# Altium integrated library TANK.IntLib: 141 symbols
Pins are listed as number, name and electrical type; pins without a type are passive.

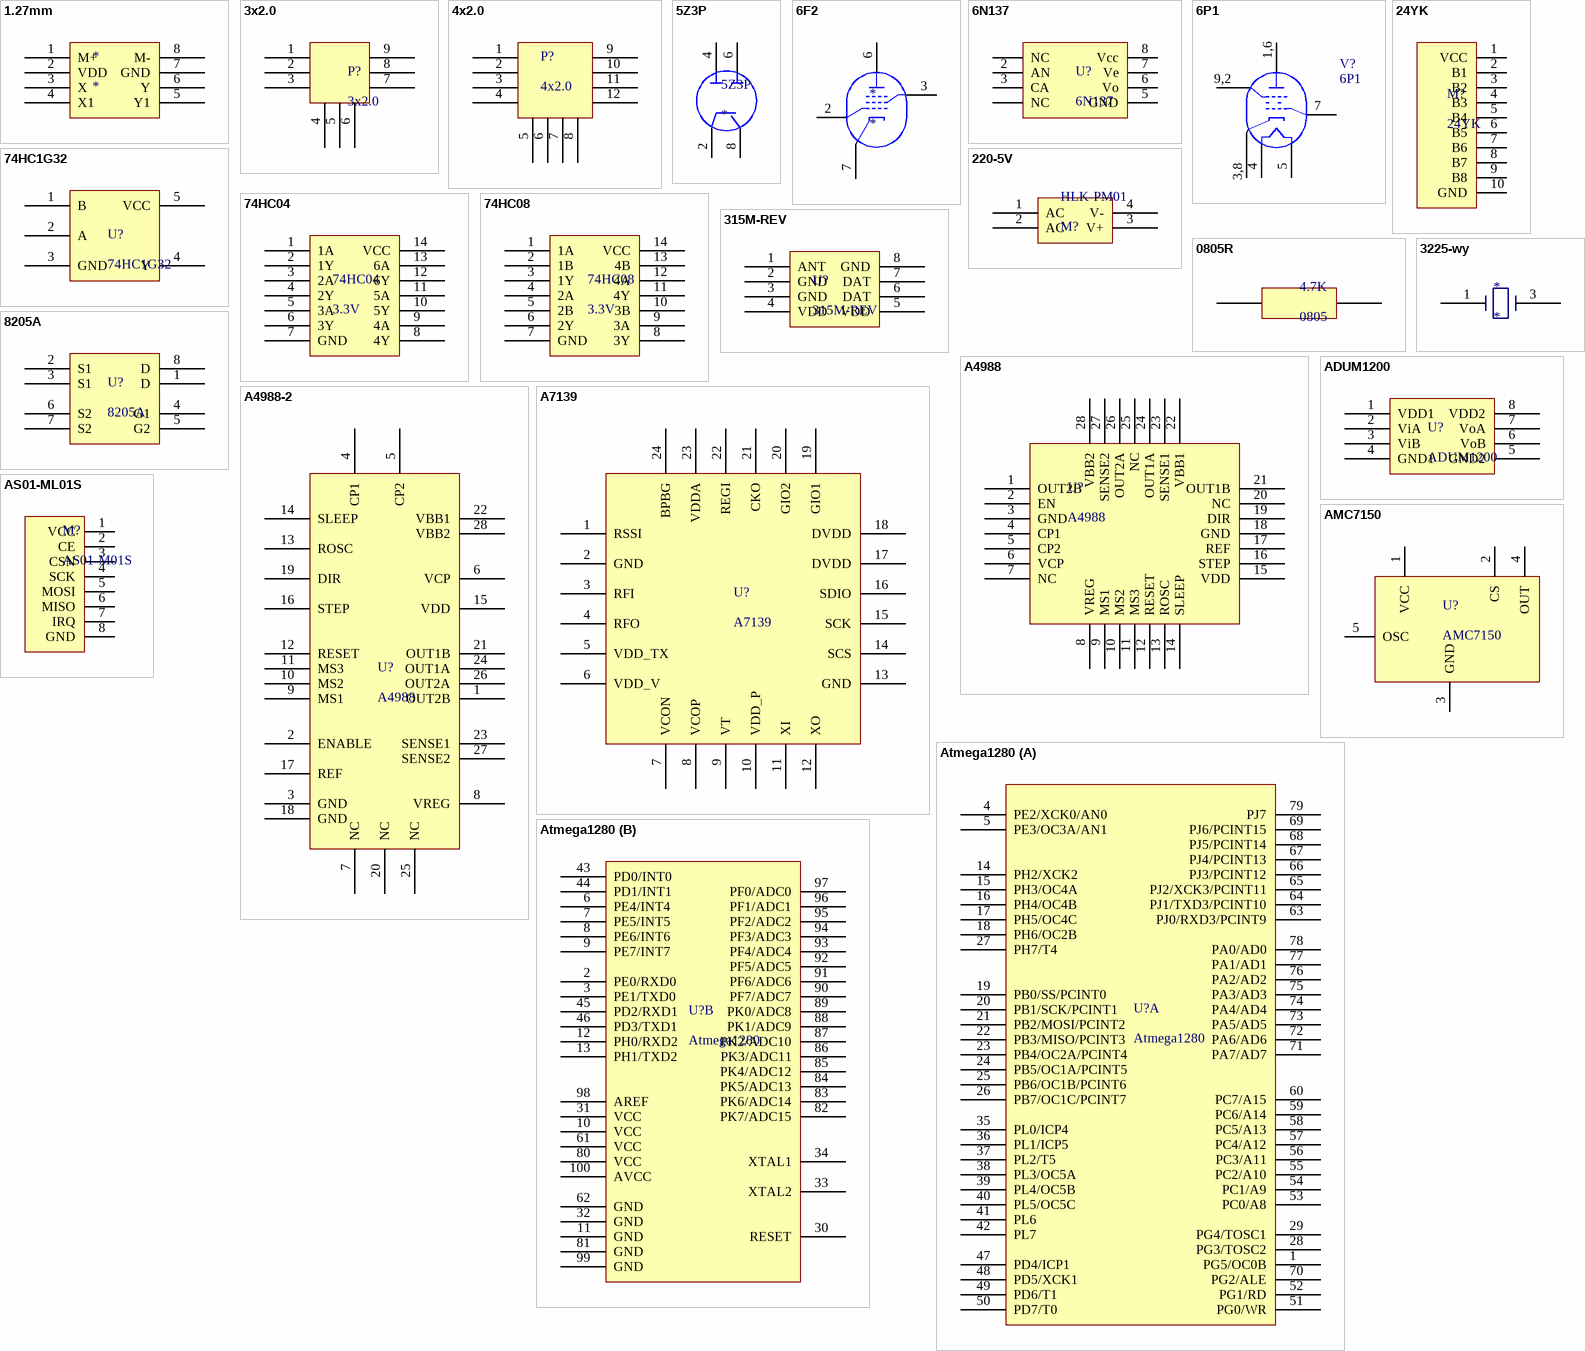
[diagram p0: symbols 1.27mm to Atmega1280]

## 1.27mm
designator *
footprint SOIC127P420X265-8N (SOIC, 8-Leads, Body 5.6x1.3mm (max), Pitch 1.27mm, IPC Medium Density); pin to pad 2>3 3>5 4>7 5>8 7>5 8>2
pins: 1 M+, 2 VDD, 3 X, 4 X1, 5 Y1, 6 Y, 7 GND, 8 M-

## 3x2.0
designator P?
footprint TX-3P
pins: 1, 2, 3, 4, 5, 6, 7, 8, 9

## 4x2.0
designator P?
footprint 3x2.0
pins: 1, 2, 3, 4, 5, 6, 7, 8, 9, 10, 11, 12

## 5Z3P
designator 5Z3P
pins: 2 CATHODE, 4 PLATE, 6 PLATE, 8 FILAMENT2

## 6F2
designator *
pins: 2 GT1, 3 GT3, 6 PT, 7 KT

## 6N137
designator U?
Value: 6N137
footprint SOIC8
pins: 1 NC, 2 AN, 3 CA, 4 NC, 5 GND, 6 Vo, 7 Ve, 8 Vcc

## 6P1
designator V?
Sharp Cutoff Pentode; Note: Pins 2 and 6 are not connected.; Published: 8-Jun-2000; LatestRevisionDate: 17-Jul-2002; LatestRevisionNote: Re-released for DXP Platform.; PackageReference: VTUBE-9; Publisher: Altium Limited
pins: 1,6 PT, 3,8 KT, 4 H, 5 H, 7 GT1, 9,2 GT3

## 24YK
designator M?
footprint 24YK
pins: 1 VCC (power), 2 B1 (power), 3 B2 (power), 4 B3 (power), 5 B4 (power), 6 B5 (power), 7 B6 (power), 8 B7 (power), 9 B8 (power), 10 GND (power)

## 74HC1G32
designator U?
footprint SOT-753
pins: 1 B, 2 A, 3 GND, 4 Y, 5 VCC

## 74HC04
designator 74HC04, comment 3.3V
pins: 1 1A, 2 1Y, 3 2A, 4 2Y, 5 3A, 6 3Y, 7 GND, 8 4Y, 9 4A, 10 5Y, 11 5A, 12 6Y, 13 6A, 14 VCC

## 74HC08
designator 74HC08, comment 3.3V
pins: 1 1A, 2 1B, 3 1Y, 4 2A, 5 2B, 6 2Y, 7 GND, 8 3Y, 9 3A, 10 3B, 11 4Y, 12 4A, 13 4B, 14 VCC

## 220-5V
designator HLK-PM01, comment M?
footprint HLK-PM01
pins: 1 AC, 2 AC, 3 V+, 4 V-

## 315M-REV
designator U?
footprint 315M-REV
pins: 1 ANT, 2 GND, 3 GND, 4 VDD, 5 VDD, 6 DAT, 7 DAT, 8 GND

## 0805R
designator 4.7K, comment 0805
footprint 0805 (Chip Resistor, 2-Leads, Body 2.0x1.3mm, IPC Medium Density)
pins: 1 0, 2 1

## 3225-wy
designator *
pins: 1, 3

## 8205A
designator U?
footprint TSSOP-8L
pins: 1 D, 2 S1, 3 S1, 4 G1, 5 G2, 6 S2, 7 S2, 8 D

## A4988
designator U?
footprint QFN28-A4988
pins: 1 OUT2B, 2 EN, 3 GND, 4 CP1, 5 CP2, 6 VCP, 7 NC, 8 VREG, 9 MS1, 10 MS2, 11 MS3, 12 RESET, 13 ROSC, 14 SLEEP, 15 VDD, 16 STEP, 17 REF, 18 GND, 19 DIR, 20 NC, 21 OUT1B, 22 VBB1, 23 SENSE1, 24 OUT1A, 25 NC, 26 OUT2A, 27 SENSE2, 28 VBB2

## A4988-2
designator U?, comment A4988
footprint QFN28-A4988
pins: 1 OUT2B, 2 ENABLE, 3 GND, 4 CP1, 5 CP2, 6 VCP, 7 NC, 8 VREG, 9 MS1, 10 MS2, 11 MS3, 12 RESET, 13 ROSC, 14 SLEEP, 15 VDD, 16 STEP, 17 REF, 18 GND, 19 DIR, 20 NC, 21 OUT1B, 22 VBB1, 23 SENSE1, 24 OUT1A, 25 NC, 26 OUT2A, 27 SENSE2, 28 VBB2

## A7139
designator U?
footprint QFN24N (QFN, 24-Leads, Body 4.1x4.1mm (max), Pitch 0.50mm, IPC Medium Density)
pins: 1 RSSI, 2 GND, 3 RFI, 4 RFO, 5 VDD_TX, 6 VDD_V, 7 VCON, 8 VCOP, 9 VT, 10 VDD_P, 11 XI, 12 XO, 13 GND, 14 SCS, 15 SCK, 16 SDIO, 17 DVDD, 18 DVDD, 19 GIO1, 20 GIO2, 21 CKO, 22 REGI, 23 VDDA, 24 BPBG

## ADUM1200
designator U?
footprint SOIC8_M (8-Pin Small Outline Integrated Circuit Package (SOIC8), IPC Low Density)
footprint SOIC8
pins: 1 VDD1, 2 ViA, 3 ViB, 4 GND1, 5 GND2, 6 VoB, 7 VoA, 8 VDD2

## AMC7150
designator U?
footprint TO-252-5
pins: 1 VCC, 2 CS, 3 GND, 4 OUT, 5 OSC

## AS01-ML01S
designator M?, comment AS01-M01S
Value: AS01-M01S
footprint AS01-ML01S-V4.0
pins: 1 VCC (power), 2 CE (power), 3 CSN (power), 4 SCK (power), 5 MOSI (power), 6 MISO (power), 7 IRQ (power), 8 GND (power)

## Atmega1280
designator U?
footprint TQFP-100N (TSQFP, 100-Leads, Body 16.3x16.3mm (max), Pitch 0.50mm, IPC Medium Density)
part A pins: 1 PG5/OC0B, 4 PE2/XCK0/AN0, 5 PE3/OC3A/AN1, 14 PH2/XCK2, 15 PH3/OC4A, 16 PH4/OC4B, 17 PH5/OC4C, 18 PH6/OC2B, 19 PB0/SS/PCINT0, 20 PB1/SCK/PCINT1, 21 PB2/MOSI/PCINT2, 22 PB3/MISO/PCINT3, 23 PB4/OC2A/PCINT4, 24 PB5/OC1A/PCINT5, 25 PB6/OC1B/PCINT6, 26 PB7/OC1C/PCINT7, 27 PH7/T4, 28 PG3/TOSC2, 29 PG4/TOSC1, 35 PL0/ICP4, 36 PL1/ICP5, 37 PL2/T5, 38 PL3/OC5A, 39 PL4/OC5B, 40 PL5/OC5C, 41 PL6, 42 PL7, 47 PD4/ICP1, 48 PD5/XCK1, 49 PD6/T1, 50 PD7/T0, 51 PG0/WR, 52 PG1/RD, 53 PC0/A8, 54 PC1/A9, 55 PC2/A10, 56 PC3/A11, 57 PC4/A12, 58 PC5/A13, 59 PC6/A14, 60 PC7/A15, 63 PJ0/RXD3/PCINT9, 64 PJ1/TXD3/PCINT10, 65 PJ2/XCK3/PCINT11, 66 PJ3/PCINT12, 67 PJ4/PCINT13, 68 PJ5/PCINT14, 69 PJ6/PCINT15, 70 PG2/ALE, 71 PA7/AD7, 72 PA6/AD6, 73 PA5/AD5, 74 PA4/AD4, 75 PA3/AD3, 76 PA2/AD2, 77 PA1/AD1, 78 PA0/AD0, 79 PJ7
part B pins: 2 PE0/RXD0, 3 PE1/TXD0, 6 PE4/INT4, 7 PE5/INT5, 8 PE6/INT6, 9 PE7/INT7, 10 VCC, 11 GND, 12 PH0/RXD2, 13 PH1/TXD2, 30 RESET, 31 VCC, 32 GND, 33 XTAL2, 34 XTAL1, 43 PD0/INT0, 44 PD1/INT1, 45 PD2/RXD1, 46 PD3/TXD1, 61 VCC, 62 GND, 80 VCC, 81 GND, 82 PK7/ADC15, 83 PK6/ADC14, 84 PK5/ADC13, 85 PK4/ADC12, 86 PK3/ADC11, 87 PK2/ADC10, 88 PK1/ADC9, 89 PK0/ADC8, 90 PF7/ADC7, 91 PF6/ADC6, 92 PF5/ADC5, 93 PF4/ADC4, 94 PF3/ADC3, 95 PF2/ADC2, 96 PF1/ADC1, 97 PF0/ADC0, 98 AREF, 99 GND, 100 AVCC

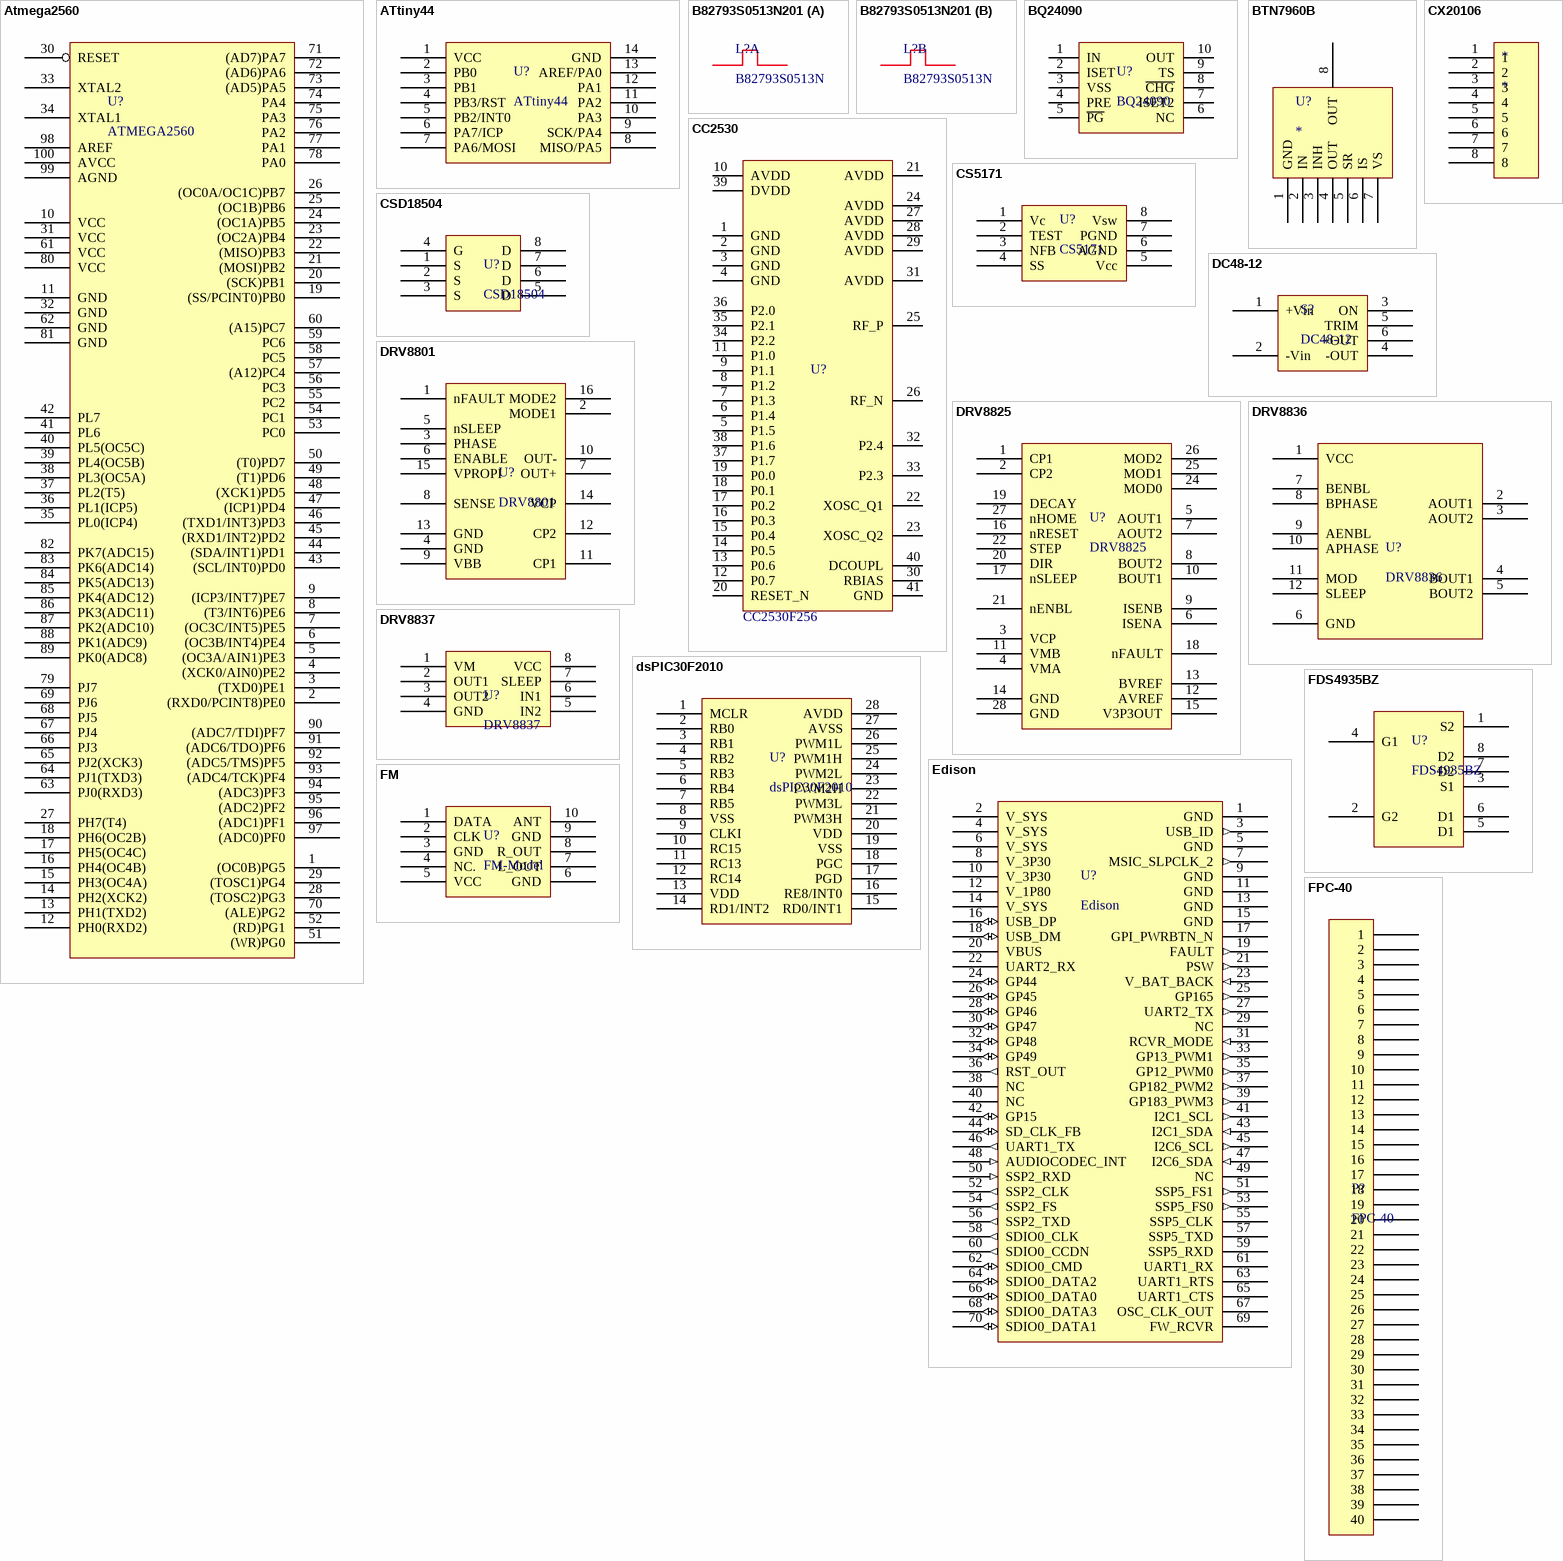
[diagram p1: symbols Atmega2560 to FPC-40]

## Atmega2560
designator U?, comment ATMEGA2560
footprint TQFP-100N (TSQFP, 100-Leads, Body 16.3x16.3mm (max), Pitch 0.50mm, IPC Medium Density)
pins: 1 (OC0B)PG5, 2 (RXD0/PCINT8)PE0, 3 (TXD0)PE1, 4 (XCK0/AIN0)PE2, 5 (OC3A/AIN1)PE3, 6 (OC3B/INT4)PE4, 7 (OC3C/INT5)PE5, 8 (T3/INT6)PE6, 9 (ICP3/INT7)PE7, 10 VCC, 11 GND, 12 PH0(RXD2), 13 PH1(TXD2), 14 PH2(XCK2), 15 PH3(OC4A), 16 PH4(OC4B), 17 PH5(OC4C), 18 PH6(OC2B), 19 (SS/PCINT0)PB0, 20 (SCK)PB1, 21 (MOSI)PB2, 22 (MISO)PB3, 23 (OC2A)PB4, 24 (OC1A)PB5, 25 (OC1B)PB6, 26 (OC0A/OC1C)PB7, 27 PH7(T4), 28 (TOSC2)PG3, 29 (TOSC1)PG4, 30 RESET, 31 VCC, 32 GND, 33 XTAL2, 34 XTAL1, 35 PL0(ICP4), 36 PL1(ICP5), 37 PL2(T5), 38 PL3(OC5A), 39 PL4(OC5B), 40 PL5(OC5C), 41 PL6, 42 PL7, 43 (SCL/INT0)PD0, 44 (SDA/INT1)PD1, 45 (RXD1/INT2)PD2, 46 (TXD1/INT3)PD3, 47 (ICP1)PD4, 48 (XCK1)PD5, 49 (T1)PD6, 50 (T0)PD7, 51 (WR)PG0, 52 (RD)PG1, 53 PC0, 54 PC1, 55 PC2, 56 PC3, 57 (A12)PC4, 58 PC5, 59 PC6, 60 (A15)PC7, 61 VCC, 62 GND, 63 PJ0(RXD3), 64 PJ1(TXD3), 65 PJ2(XCK3), 66 PJ3, 67 PJ4, 68 PJ5, 69 PJ6, 70 (ALE)PG2, 71 (AD7)PA7, 72 (AD6)PA6, 73 (AD5)PA5, 74 PA4, 75 PA3, 76 PA2, 77 PA1, 78 PA0, 79 PJ7, 80 VCC, 81 GND, 82 PK7(ADC15), 83 PK6(ADC14), 84 PK5(ADC13), 85 PK4(ADC12), 86 PK3(ADC11), 87 PK2(ADC10), 88 PK1(ADC9), 89 PK0(ADC8), 90 (ADC7/TDI)PF7, 91 (ADC6/TDO)PF6, 92 (ADC5/TMS)PF5, 93 (ADC4/TCK)PF4, 94 (ADC3)PF3, 95 (ADC2)PF2, 96 (ADC1)PF1, 97 (ADC0)PF0, 98 AREF, 99 AGND, 100 AVCC

## ATtiny44
designator U?
footprint 751A-03_M (14-Pin Small Outline Integrated Circuit 1.27 mm Pitch, IPC Low Density)
pins: 1 VCC, 2 PB0, 3 PB1, 4 PB3/RST, 5 PB2/INT0, 6 PA7/ICP, 7 PA6/MOSI, 8 MISO/PA5, 9 SCK/PA4, 10 PA3, 11 PA2, 12 PA1, 13 AREF/PA0, 14 GND

## B82793S0513N201
designator L?, comment B82793S0513N
footprint B82793S0513N201
part A pins: 1, 4
part B pins: 2, 3

## BQ24090
designator U?
footprint MSOP-PowerPAD-10
pins: 1 IN, 2 ISET, 3 VSS, 4 PRE, 5 ~{PG}, 6 NC, 7 ISET2, 8 ~{CHG}, 9 TS, 10 OUT, 11 hidden to GND

## BTN7960B
designator U?
footprint BTN7960B (D2-PAK, 8-Pads, Body 9.4x10.2mm (max), IPC Medium Density)
pins: 1 GND, 2 IN, 3 INH, 4 OUT, 5 SR, 6 IS, 7 VS, 8 OUT

## CC2530
designator U?  value CC2530F256  (hidden comment: CC2530)
footprint Model Name (Footprint not found)
footprint QFN40P (QFN, 40-Leads, Body 6.2x6.2mm (max), Pitch 0.50mm, IPC Medium Density)
pins: 1 GND, 2 GND, 3 GND, 4 GND, 5 P1.5, 6 P1.4, 7 P1.3, 8 P1.2, 9 P1.1, 10 AVDD, 11 P1.0, 12 P0.7, 13 P0.6, 14 P0.5, 15 P0.4, 16 P0.3, 17 P0.2, 18 P0.1, 19 P0.0, 20 RESET_N, 21 AVDD, 22 XOSC_Q1, 23 XOSC_Q2, 24 AVDD, 25 RF_P, 26 RF_N, 27 AVDD, 28 AVDD, 29 AVDD, 30 RBIAS, 31 AVDD, 32 P2.4, 33 P2.3, 34 P2.2, 35 P2.1, 36 P2.0, 37 P1.7, 38 P1.6, 39 DVDD, 40 DCOUPL, 41 GND

## CS5171
designator U?
footprint SOIC8_N (8-Pin Small Outline Integrated Circuit Package (SOIC8), IPC Medium Density)
pins: 1 Vc, 2 TEST, 3 NFB, 4 SS, 5 Vcc, 6 AGND, 7 PGND, 8 Vsw

## CSD18504
designator U?
footprint SON-5*6
pins: 1 S, 2 S, 3 S, 4 G, 5 D, 6 D, 7 D, 8 D

## CX20106
designator *
pins: 1, 2, 3, 4, 5, 6, 7, 8

## DC48-12
designator S?
footprint SE48-12
pins: 1 +Vin, 2 -Vin, 3 ON, 4 -OUT, 5 TRIM, 6 +OUT

## DRV8801
designator U?
footprint HTSSOP-16
pins: 1 nFAULT, 2 MODE1, 3 PHASE, 4 GND, 5 nSLEEP, 6 ENABLE, 7 OUT+, 8 SENSE, 9 VBB, 10 OUT-, 11 CP1, 12 CP2, 13 GND, 14 VCP, 15 VPROPI, 16 MODE2

## DRV8825
designator U?
footprint HTSSOP28-L6470
pins: 1 CP1, 2 CP2, 3 VCP, 4 VMA, 5 AOUT1, 6 ISENA, 7 AOUT2, 8 BOUT2, 9 ISENB, 10 BOUT1, 11 VMB, 12 AVREF, 13 BVREF, 14 GND, 15 V3P3OUT, 16 nRESET, 17 nSLEEP, 18 nFAULT, 19 DECAY, 20 DIR, 21 nENBL, 22 STEP, 23 NC hidden, 24 MOD0, 25 MOD1, 26 MOD2, 27 nHOME, 28 GND

## DRV8836
designator U?
footprint WSON-8
pins: 1 VCC, 2 AOUT1, 3 AOUT2, 4 BOUT1, 5 BOUT2, 6 GND, 7 BENBL, 8 BPHASE, 9 AENBL, 10 APHASE, 11 MOD, 12 SLEEP

## DRV8837
designator U?
footprint WSON8 (DRV8837)
pins: 1 VM, 2 OUT1, 3 OUT2, 4 GND, 5 IN2, 6 IN1, 7 SLEEP, 8 VCC
1 alternate drawing of the same symbol

## dsPIC30F2010
designator U?
footprint SOIC28_M (28-Pin Small Outline Integrated Circuit (SOIC28), IPC Low Density)
pins: 1 MCLR, 2 RB0, 3 RB1, 4 RB2, 5 RB3, 6 RB4, 7 RB5, 8 VSS, 9 CLKI, 10 RC15, 11 RC13, 12 RC14, 13 VDD, 14 RD1/INT2, 15 RD0/INT1, 16 RE8/INT0, 17 PGD, 18 PGC, 19 VSS, 20 VDD, 21 PWM3H, 22 PWM3L, 23 PWM2H, 24 PWM2L, 25 PWM1H, 26 PWM1L, 27 AVSS, 28 AVDD

## Edison
designator U?
pins: 1 GND (power), 2 V_SYS, 3 USB_ID (out), 4 V_SYS, 5 GND (power), 6 V_SYS, 7 MSIC_SLPCLK_2 (out), 8 V_3P30, 9 GND (power), 10 V_3P30, 11 GND (power), 12 V_1P80, 13 GND (power), 14 V_SYS, 15 GND (power), 16 USB_DP (io), 17 GPI_PWRBTN_N, 18 USB_DM (io), 19 FAULT (out), 20 VBUS, 21 PSW (out), 22 UART2_RX, 23 V_BAT_BACK (in), 24 GP44 (io), 25 GP165 (out), 26 GP45 (io), 27 UART2_TX (out), 28 GP46 (io), 29 NC, 30 GP47 (io), 31 RCVR_MODE (in), 32 GP48 (io), 33 GP13_PWM1 (out), 34 GP49 (io), 35 GP12_PWM0 (out), 36 RST_OUT (out), 37 GP182_PWM2 (out), 38 NC, 39 GP183_PWM3 (out), 40 NC, 41 I2C1_SCL (out), 42 GP15 (io), 43 I2C1_SDA (in), 44 SD_CLK_FB (io), 45 I2C6_SCL (out), 46 UART1_TX (out), 47 I2C6_SDA (in), 48 AUDIOCODEC_INT (in), 49 NC, 50 SSP2_RXD (in), 51 SSP5_FS1 (out), 52 SSP2_CLK (out), 53 SSP5_FS0 (out), 54 SSP2_FS (out), 55 SSP5_CLK, 56 SSP2_TXD (out), 57 SSP5_TXD, 58 SDIO0_CLK (out), 59 SSP5_RXD, 60 SDIO0_CCDN (out), 61 UART1_RX, 62 SDIO0_CMD (io), 63 UART1_RTS, 64 SDIO0_DATA2 (io), 65 UART1_CTS, 66 SDIO0_DATA0 (io), 67 OSC_CLK_OUT, 68 SDIO0_DATA3 (io), 69 FW_RCVR, 70 SDIO0_DATA1 (io)

## FDS4935BZ
designator U?
footprint SOIC8
pins: 1 S2, 2 G2, 3 S1, 4 G1, 5 D1, 6 D1, 7 D2, 8 D2

## FM
designator U?, comment FM-Model
footprint FM
pins: 1 DATA, 2 CLK, 3 GND, 4 NC., 5 VCC, 6 GND, 7 L_OUT, 8 R_OUT, 9 GND, 10 ANT

## FPC-40
designator P?
footprint FPC-40
pins: 1, 2, 3, 4, 5, 6, 7, 8, 9, 10, 11, 12, 13, 14, 15, 16, 17, 18, 19, 20, 21, 22, 23, 24, 25, 26, 27, 28, 29, 30, 31, 32, 33, 34, 35, 36, 37, 38, 39, 40

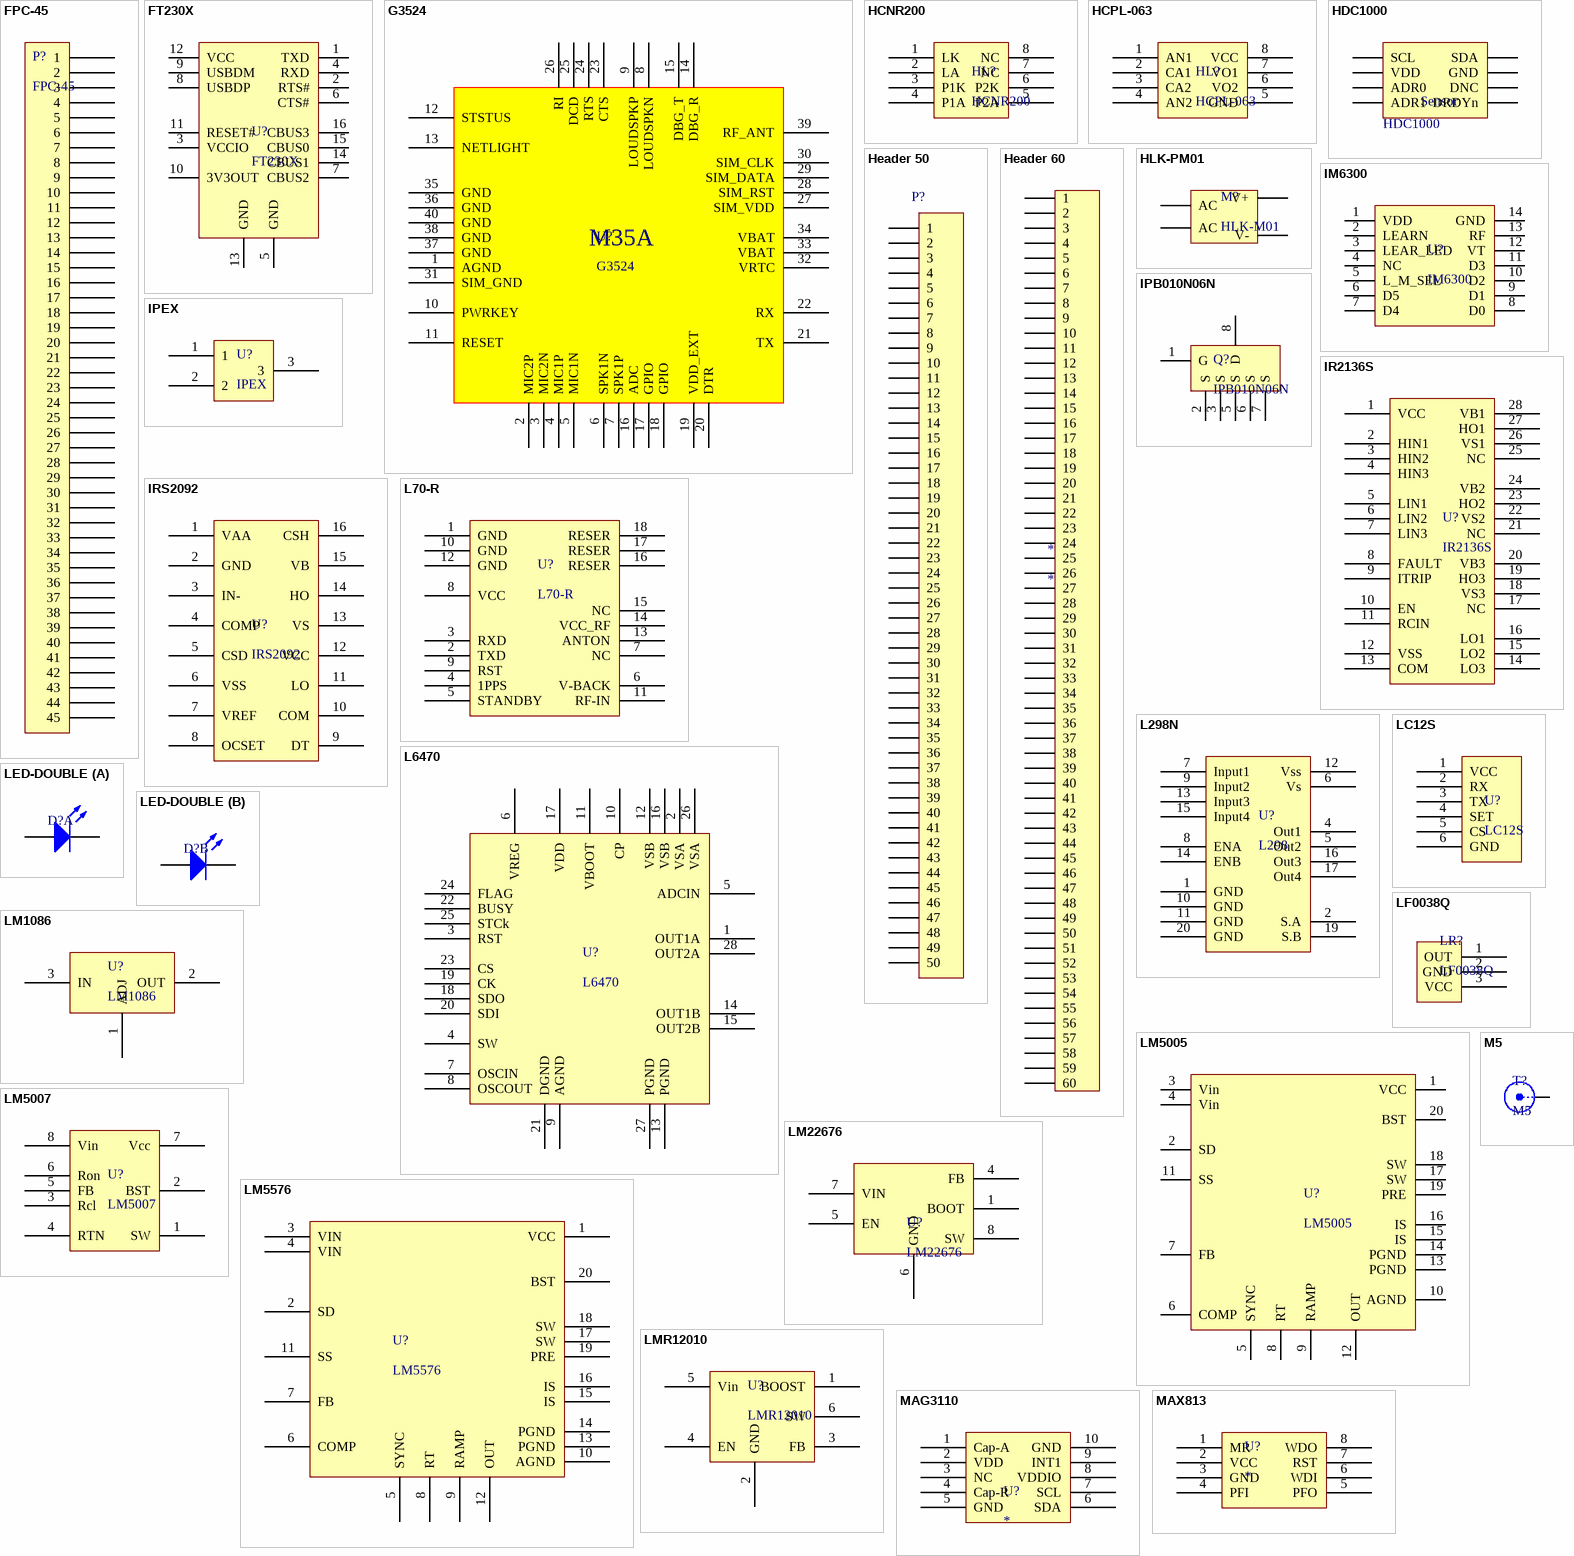
[diagram p2: symbols FPC-45 to MAX813]

## FPC-45
designator P?
footprint FPC-45
pins: 1, 2, 3, 4, 5, 6, 7, 8, 9, 10, 11, 12, 13, 14, 15, 16, 17, 18, 19, 20, 21, 22, 23, 24, 25, 26, 27, 28, 29, 30, 31, 32, 33, 34, 35, 36, 37, 38, 39, 40, 41, 42, 43, 44, 45

## FT230X
designator U?
footprint SSOP16 (SSOP; 16 Leads; Body Width 5.3 mm; Pitch 0.65 mm)
pins: 1 TXD, 2 RTS#, 3 VCCIO, 4 RXD, 5 GND, 6 CTS#, 7 CBUS2, 8 USBDP, 9 USBDM, 10 3V3OUT, 11 RESET#, 12 VCC, 13 GND, 14 CBUS1, 15 CBUS0, 16 CBUS3

## G3524
designator U?
footprint G3524
pins: 1 AGND, 2 MIC2P, 3 MIC2N, 4 MIC1P, 5 MIC1N, 6 SPK1N, 7 SPK1P, 8 LOUDSPKN, 9 LOUDSPKP, 10 PWRKEY, 11 RESET, 12 STSTUS, 13 NETLIGHT, 14 DBG_R, 15 DBG_T, 16 ADC, 17 GPIO, 18 GPIO, 19 VDD_EXT, 20 DTR, 21 TX, 22 RX, 23 CTS, 24 RTS, 25 DCD, 26 RI, 27 SIM_VDD, 28 SIM_RST, 29 SIM_DATA, 30 SIM_CLK, 31 SIM_GND, 32 VRTC, 33 VBAT, 34 VBAT, 35 GND, 36 GND, 37 GND, 38 GND, 39 RF_ANT, 40 GND
text: M35A

## HCNR200
designator HL?
pins: 1 LK, 2 LA, 3 P1K, 4 P1A, 5 P2A, 6 P2K, 7 NC, 8 NC

## HCPL-063
designator HL?
footprint SOP8_M (SOIC, 8-Leads, Body 4.9x3.9mm, Pitch 1.27mm, IPC Low Density)
pins: 1 AN1, 2 CA1, 3 CA2, 4 AN2, 5 GND, 6 VO2, 7 VO1, 8 VCC

## HDC1000
designator U?, comment Sensor  value HDC1000
footprint BGA8C50P4X2_207X162X68 (BGA, 8-Leads, Body 2.1x1.6mm,  Pitch 0.50mm)
pins: A1 SCL, A2 SDA, B1 VDD, B2 GND, C1 ADR0, C2 DNC, D1 ADR1, D2 DRDYn

## Header 50
designator P?  (value not drawn)
pins: 1, 2, 3, 4, 5, 6, 7, 8, 9, 10, 11, 12, 13, 14, 15, 16, 17, 18, 19, 20, 21, 22, 23, 24, 25, 26, 27, 28, 29, 30, 31, 32, 33, 34, 35, 36, 37, 38, 39, 40, 41, 42, 43, 44, 45, 46, 47, 48, 49, 50

## Header 60
designator *
pins: 1, 2, 3, 4, 5, 6, 7, 8, 9, 10, 11, 12, 13, 14, 15, 16, 17, 18, 19, 20, 21, 22, 23, 24, 25, 26, 27, 28, 29, 30, 31, 32, 33, 34, 35, 36, 37, 38, 39, 40, 41, 42, 43, 44, 45, 46, 47, 48, 49, 50, 51, 52, 53, 54, 55, 56, 57, 58, 59, 60

## HLK-PM01
designator M?, comment HLK-M01
footprint HLK-PM01
pins: 1 AC, 2 AC, 3 V-, 4 V+

## IM6300
designator U?
footprint SOIC14_M (SOIC, 14-Leads, Body 8.6x3.9mm, Pitch 1.27mm, IPC Low Density)
pins: 1 VDD (power), 2 LEARN (power), 3 LEAR_LED (power), 4 NC (power), 5 L_M_SEL (power), 6 D5 (power), 7 D4 (power), 8 D0 (power), 9 D1 (power), 10 D2 (power), 11 D3 (power), 12 VT (power), 13 RF (power), 14 GND (power)

## IPB010N06N
designator Q?
footprint TO263-7
pins: 1 G, 2 S, 3 S, 5 S, 6 S, 7 S, 8 D

## IPEX
designator U?
footprint IPEX (SOT23, 3-Leads, Body 3.0x2.6mm (max), Pitch 0.95mm, IPC Medium Density)
pins: 1, 2, 3

## IR2136S
designator U?
footprint SOIC28_M (28-Pin Small Outline Integrated Circuit 1.27 mm Pitch, IPC Low Density)
pins: 1 VCC, 2 HIN1, 3 HIN2, 4 HIN3, 5 LIN1, 6 LIN2, 7 LIN3, 8 FAULT, 9 ITRIP, 10 EN, 11 RCIN, 12 VSS, 13 COM, 14 LO3, 15 LO2, 16 LO1, 17 NC, 18 VS3, 19 HO3, 20 VB3, 21 NC, 22 VS2, 23 HO2, 24 VB2, 25 NC, 26 VS1, 27 HO1, 28 VB1

## IRS2092
designator U?
footprint SOIC16_M (16-Pin Small Outline Integrated Circuit 1.27 mm Pitch, IPC Low Density)
pins: 1 VAA, 2 GND, 3 IN-, 4 COMP, 5 CSD, 6 VSS, 7 VREF, 8 OCSET, 9 DT, 10 COM, 11 LO, 12 VCC, 13 VS, 14 HO, 15 VB, 16 CSH

## L70-R
designator U?
footprint L-70R
pins: 1 GND, 2 TXD, 3 RXD, 4 1PPS, 5 STANDBY, 6 V-BACK, 7 NC, 8 VCC, 9 RST, 10 GND, 11 RF-IN, 12 GND, 13 ANTON, 14 VCC_RF, 15 NC, 16 RESER, 17 RESER, 18 RESER

## L298N
designator U?, comment L298
footprint PowerSO-20 (SOP, 20-Leads, Body 15.9x11.0mm (max), Pitch 1.27mm, IPC Medium Density)
pins: 1 GND, 2 S.A, 4 Out1, 5 Out2, 6 Vs, 7 Input1, 8 ENA, 9 Input2, 10 GND, 11 GND, 12 Vss, 13 Input3, 14 ENB, 15 Input4, 16 Out3, 17 Out4, 19 S.B, 20 GND

## L6470
designator U?
footprint HTSSOP28-L6470
pins: 1 OUT1A, 2 VSA, 3 RST, 4 SW, 5 ADCIN, 6 VREG, 7 OSCIN, 8 OSCOUT, 9 AGND, 10 CP, 11 VBOOT, 12 VSB, 13 PGND, 14 OUT1B, 15 OUT2B, 16 VSB, 17 VDD, 18 SDO, 19 CK, 20 SDI, 21 DGND, 22 BUSY, 23 CS, 24 FLAG, 25 STCk, 26 VSA, 27 PGND, 28 OUT2A

## LC12S
designator U?
footprint LC12S
pins: 1 VCC, 2 RX, 3 TX, 4 SET, 5 CS, 6 GND

## LED-DOUBLE
designator D?, comment LED  (value not drawn)
footprint 0603-LED-DOUBLE
part A pins: 1 A, 2 K
part B pins: 3 A, 4 K

## LF0038Q
designator LR?
footprint LF0038Q
pins: 1 OUT, 2 GND, 3 VCC

## LM1086
designator U?
footprint TO-263AB (Footprint not found)
pins: 1 ADJ, 2 OUT, 3 IN, 4 hidden to OUT

## LM5005
designator U?
Value: LM5005
footprint TSSOP-20
pins: 1 VCC (power), 2 SD (power), 3 Vin (power), 4 Vin (power), 5 SYNC (power), 6 COMP (power), 7 FB (power), 8 RT (power), 9 RAMP (power), 10 AGND (power), 11 SS (power), 12 OUT (power), 13 PGND (power), 14 PGND (power), 15 IS (power), 16 IS (power), 17 SW (power), 18 SW (power), 19 PRE (power), 20 BST (power)

## LM5007
designator U?
pins: 1 SW, 2 BST, 3 Rcl, 4 RTN, 5 FB, 6 Ron, 7 Vcc, 8 Vin

## LM5576
designator U?
Value: LM5576
footprint HTTSOP-20
pins: 1 VCC, 2 SD, 3 VIN, 4 VIN, 5 SYNC, 6 COMP, 7 FB, 8 RT, 9 RAMP, 10 AGND, 11 SS, 12 OUT, 13 PGND, 14 PGND, 15 IS, 16 IS, 17 SW, 18 SW, 19 PRE, 20 BST

## LM22676
designator U?
footprint SOP8-POW
pins: 1 BOOT, 2 NC hidden, 3 NC hidden, 4 FB, 5 EN, 6 GND, 7 VIN, 8 SW, 9 hidden to GND

## LMR12010
designator U?
pins: 1 BOOST, 2 GND, 3 FB, 4 EN, 5 Vin, 6 SW

## M5
designator T?
footprint M5
pins: 1

## MAG3110
designator U?
footprint MAG3110-10N (QFN, 10-Leads, Body 2.0x2.0mm (max), Pitch 0.40mm, IPC Medium Density)
pins: 1 Cap-A, 2 VDD, 3 NC, 4 Cap-R, 5 GND, 6 SDA, 7 SCL, 8 VDDIO, 9 INT1, 10 GND

## MAX813
designator U?
footprint SOP8_M (Footprint not found)
pins: 1 MR, 2 VCC, 3 GND, 4 PFI, 5 PFO, 6 WDI, 7 RST, 8 WDO

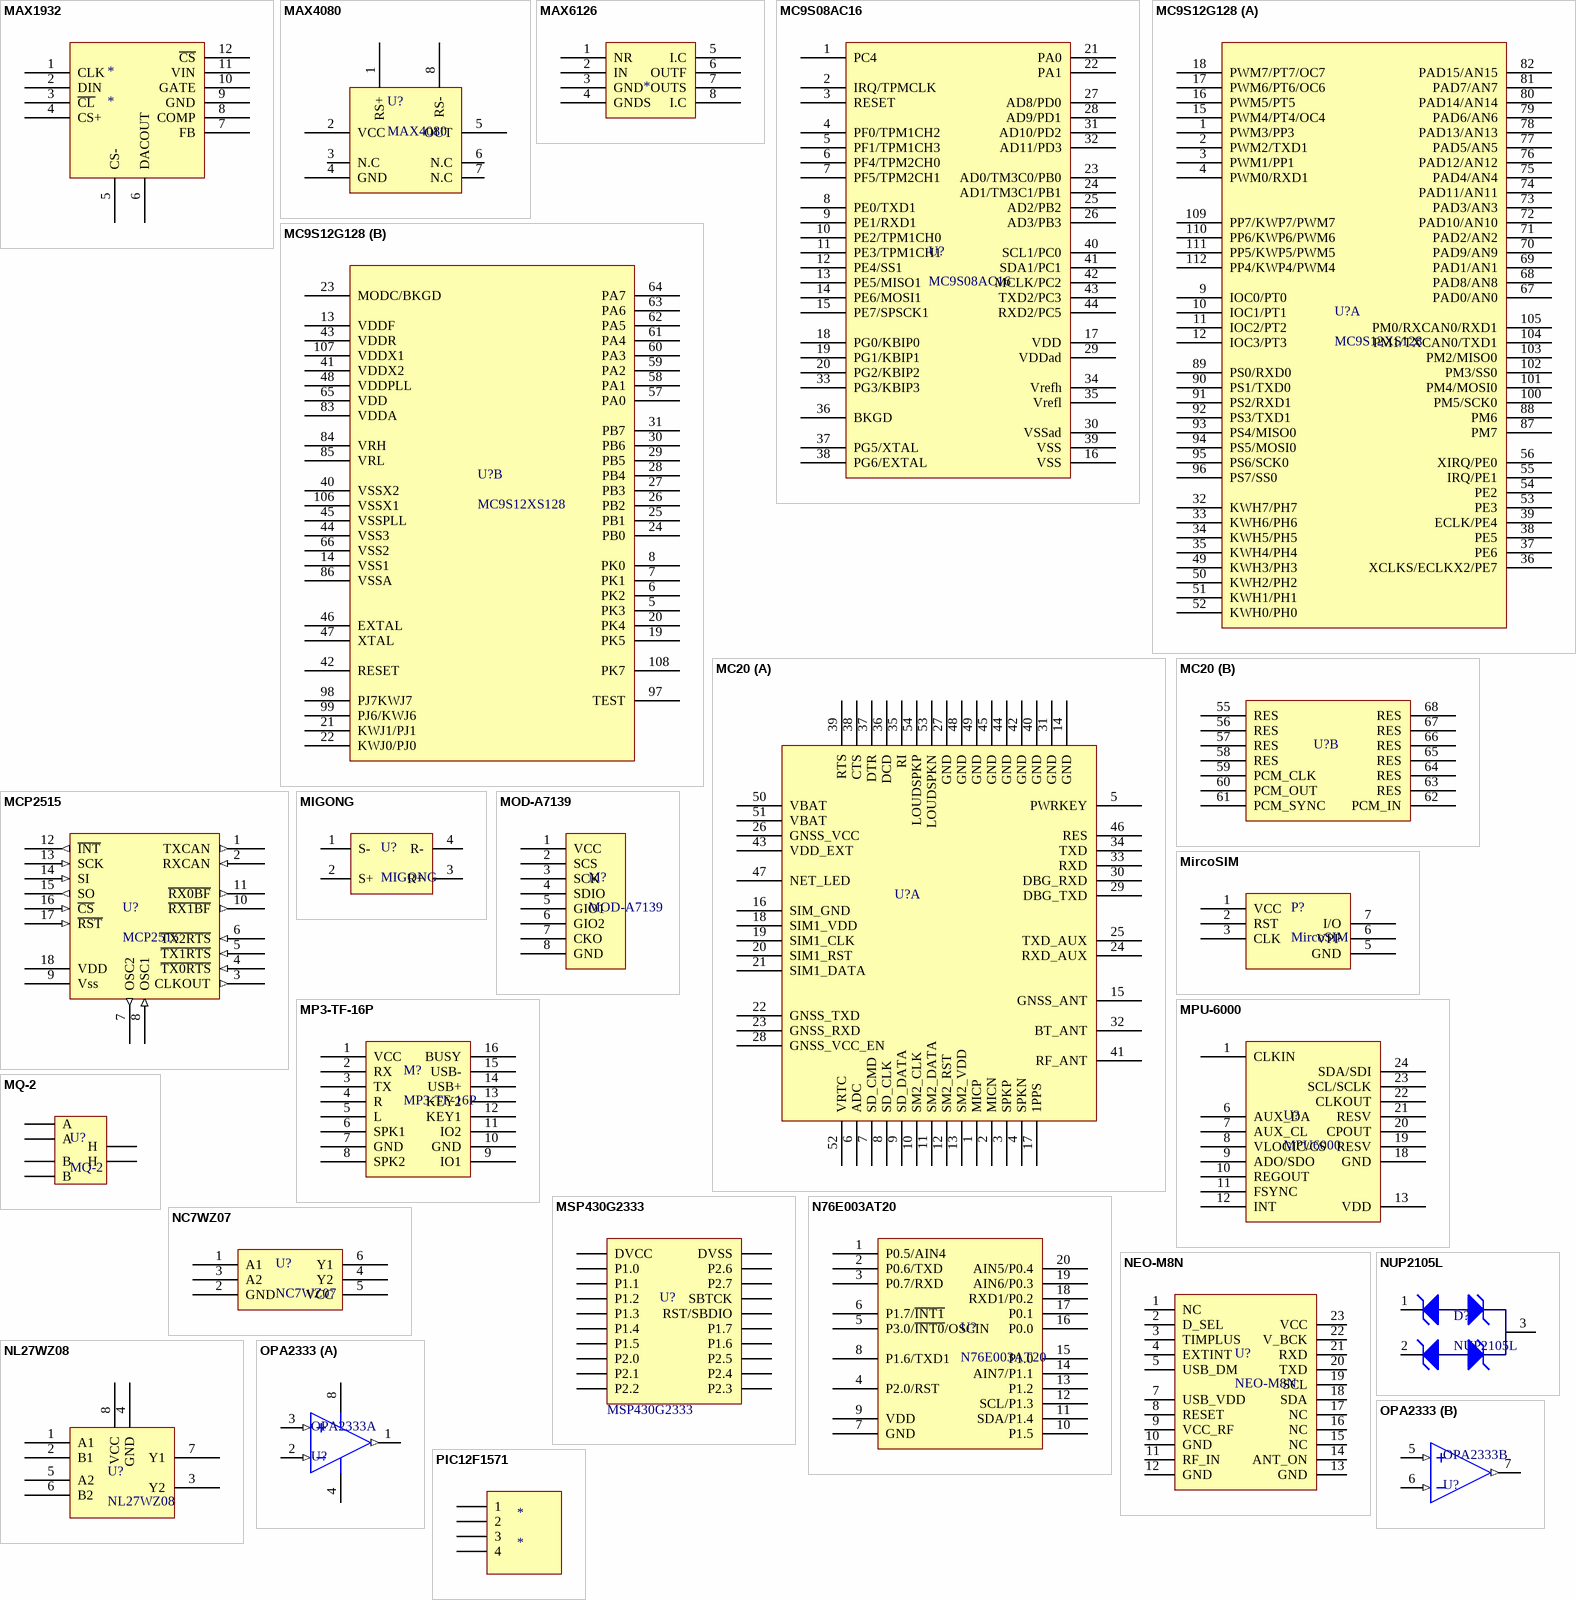
[diagram p3: symbols MAX1932 to PIC12F1571]

## MAX1932
designator *
pins: 1 CLK, 2 DIN, 3 ~{CL}, 4 CS+, 5 CS-, 6 DACOUT, 7 FB, 8 COMP, 9 GND, 10 GATE, 11 VIN, 12 ~{CS}

## MAX4080
designator U?
footprint SOIC8
pins: 1 RS+, 2 VCC, 3 N.C, 4 GND, 5 OUT, 6 N.C, 7 N.C, 8 RS-

## MAX6126
designator ?
footprint uMAX-8N (TSOP, 8-Leads, Body 3.1x3.1mm (max), Pitch 0.65mm, IPC Medium Density)
pins: 1 NR, 2 IN, 3 GND, 4 GNDS, 5 I.C, 6 OUTF, 7 OUTS, 8 I.C

## MC9S08AC16
designator U?
footprint 44A_N (44-Pin Thin Quad Flat Pack 0.8 mm Pitch, IPC Medium Density)
pins: 1 PC4, 2 IRQ/TPMCLK, 3 RESET, 4 PF0/TPM1CH2, 5 PF1/TPM1CH3, 6 PF4/TPM2CH0, 7 PF5/TPM2CH1, 8 PE0/TXD1, 9 PE1/RXD1, 10 PE2/TPM1CH0, 11 PE3/TPM1CH1, 12 PE4/SS1, 13 PE5/MISO1, 14 PE6/MOSI1, 15 PE7/SPSCK1, 16 VSS, 17 VDD, 18 PG0/KBIP0, 19 PG1/KBIP1, 20 PG2/KBIP2, 21 PA0, 22 PA1, 23 AD0/TM3C0/PB0, 24 AD1/TM3C1/PB1, 25 AD2/PB2, 26 AD3/PB3, 27 AD8/PD0, 28 AD9/PD1, 29 VDDad, 30 VSSad, 31 AD10/PD2, 32 AD11/PD3, 33 PG3/KBIP3, 34 Vrefh, 35 Vrefl, 36 BKGD, 37 PG5/XTAL, 38 PG6/EXTAL, 39 VSS, 40 SCL1/PC0, 41 SDA1/PC1, 42 MCLK/PC2, 43 TXD2/PC3, 44 RXD2/PC5

## MC9S12G128
designator U?, comment MC9S12XS128
footprint LQFP-112 (TQFP, 112-Leads, Body 22.0x22.0mm (max), Pitch 0.65mm, IPC Medium Density)
part A pins: 1 PWM3/PP3, 2 PWM2/TXD1, 3 PWM1/PP1, 4 PWM0/RXD1, 9 IOC0/PT0, 10 IOC1/PT1, 11 IOC2/PT2, 12 IOC3/PT3, 15 PWM4/PT4/OC4, 16 PWM5/PT5, 17 PWM6/PT6/OC6, 18 PWM7/PT7/OC7, 32 KWH7/PH7, 33 KWH6/PH6, 34 KWH5/PH5, 35 KWH4/PH4, 36 XCLKS/ECLKX2/PE7, 37 PE6, 38 PE5, 39 ECLK/PE4, 49 KWH3/PH3, 50 KWH2/PH2, 51 KWH1/PH1, 52 KWH0/PH0, 53 PE3, 54 PE2, 55 IRQ/PE1, 56 XIRQ/PE0, 67 PAD0/AN0, 68 PAD8/AN8, 69 PAD1/AN1, 70 PAD9/AN9, 71 PAD2/AN2, 72 PAD10/AN10, 73 PAD3/AN3, 74 PAD11/AN11, 75 PAD4/AN4, 76 PAD12/AN12, 77 PAD5/AN5, 78 PAD13/AN13, 79 PAD6/AN6, 80 PAD14/AN14, 81 PAD7/AN7, 82 PAD15/AN15, 87 PM7, 88 PM6, 89 PS0/RXD0, 90 PS1/TXD0, 91 PS2/RXD1, 92 PS3/TXD1, 93 PS4/MISO0, 94 PS5/MOSI0, 95 PS6/SCK0, 96 PS7/SS0, 100 PM5/SCK0, 101 PM4/MOSI0, 102 PM3/SS0, 103 PM2/MISO0, 104 PM1/TXCAN0/TXD1, 105 PM0/RXCAN0/RXD1, 109 PP7/KWP7/PWM7, 110 PP6/KWP6/PWM6, 111 PP5/KWP5/PWM5, 112 PP4/KWP4/PWM4
part B pins: 5 PK3, 6 PK2, 7 PK1, 8 PK0, 13 VDDF, 14 VSS1, 19 PK5, 20 PK4, 21 KWJ1/PJ1, 22 KWJ0/PJ0, 23 MODC/BKGD, 24 PB0, 25 PB1, 26 PB2, 27 PB3, 28 PB4, 29 PB5, 30 PB6, 31 PB7, 40 VSSX2, 41 VDDX2, 42 RESET, 43 VDDR, 44 VSS3, 45 VSSPLL, 46 EXTAL, 47 XTAL, 48 VDDPLL, 57 PA0, 58 PA1, 59 PA2, 60 PA3, 61 PA4, 62 PA5, 63 PA6, 64 PA7, 65 VDD, 66 VSS2, 83 VDDA, 84 VRH, 85 VRL, 86 VSSA, 97 TEST, 98 PJ7KWJ7, 99 PJ6/KWJ6, 106 VSSX1, 107 VDDX1, 108 PK7

## MC20
designator U?  (value not drawn)
footprint MC20
part A pins: 1 MICP, 2 MICN, 3 SPKP, 4 SPKN, 5 PWRKEY, 6 ADC, 7 SD_CMD, 8 SD_CLK, 9 SD_DATA, 10 SM2_CLK, 11 SM2_DATA, 12 SM2_RST, 13 SM2_VDD, 14 GND, 15 GNSS_ANT, 16 SIM_GND, 17 1PPS, 18 SIM1_VDD, 19 SIM1_CLK, 20 SIM1_RST, 21 SIM1_DATA, 22 GNSS_TXD, 23 GNSS_RXD, 24 RXD_AUX, 25 TXD_AUX, 26 GNSS_VCC, 27 GND, 28 GNSS_VCC_EN, 29 DBG_TXD, 30 DBG_RXD, 31 GND, 32 BT_ANT, 33 RXD, 34 TXD, 35 RI, 36 DCD, 37 DTR, 38 CTS, 39 RTS, 40 GND, 41 RF_ANT, 42 GND, 43 VDD_EXT, 44 GND, 45 GND, 46 RES, 47 NET_LED, 48 GND, 49 GND, 50 VBAT, 51 VBAT, 52 VRTC, 53 LOUDSPKN, 54 LOUDSPKP
part B pins: 55 RES, 56 RES, 57 RES, 58 RES, 59 PCM_CLK, 60 PCM_OUT, 61 PCM_SYNC, 62 PCM_IN, 63 RES, 64 RES, 65 RES, 66 RES, 67 RES, 68 RES

## MCP2515
designator U?
footprint SOIC-18
pins: 1 TXCAN (out), 2 RXCAN (in), 3 CLKOUT (out), 4 ~{TX0RTS} (in), 5 ~{TX1RTS} (in), 6 ~{TX2RTS} (in), 7 OSC2 (out), 8 OSC1 (in), 9 Vss, 10 ~{RX1BF} (out), 11 ~{RX0BF} (out), 12 ~{INT} (out), 13 SCK (in), 14 SI (in), 15 SO (out), 16 ~{CS} (in), 17 ~{RST} (in), 18 VDD

## MIGONG
designator U?
MIGONG: *
footprint migong
pins: 1 S- (power), 2 S+ (power), 3 R+ (power), 4 R- (power)

## MircoSIM
designator P?
footprint Micro SIM
pins: 1 VCC, 2 RST, 3 CLK, 5 GND, 6 VPP, 7 I/O

## MOD-A7139
designator M?
footprint MOD-7139
pins: 1 VCC, 2 SCS, 3 SCK, 4 SDIO, 5 GIO1, 6 GIO2, 7 CKO, 8 GND

## MP3-TF-16P
designator M?
footprint MP3-TF-16P
pins: 1 VCC, 2 RX, 3 TX, 4 R, 5 L, 6 SPK1, 7 GND, 8 SPK2, 9 IO1, 10 GND, 11 IO2, 12 KEY1, 13 KEY2, 14 USB+, 15 USB-, 16 BUSY

## MPU-6000
designator U?, comment MPU6000
footprint MPU-6000 (QFN, 24-Leads, Body 4.1x4.1mm (max), Pitch 0.50mm, IPC Medium Density)
pins: 1 CLKIN, 6 AUX_DA, 7 AUX_CL, 8 VLOGIC/CS, 9 ADO/SDO, 10 REGOUT, 11 FSYNC, 12 INT, 13 VDD, 18 GND, 19 RESV, 20 CPOUT, 21 RESV, 22 CLKOUT, 23 SCL/SCLK, 24 SDA/SDI

## MQ-2
designator U?
footprint MQ-2
pins: 1 A, 2 H, 3 A, 4 B, 5 H, 6 B

## MSP430G2333
designator U?, comment value MSP430G2333  (hidden comment: IC)
footprint TSSOP20 (Footprint not found)
footprint TSSOP-20
pins: 1 DVCC, 2 P1.0, 3 P1.1, 4 P1.2, 5 P1.3, 6 P1.4, 7 P1.5, 8 P2.0, 9 P2.1, 10 P2.2, 11 P2.3, 12 P2.4, 13 P2.5, 14 P1.6, 15 P1.7, 16 RST/SBDIO, 17 SBTCK, 18 P2.7, 19 P2.6, 20 DVSS

## N76E003AT20
designator U?
footprint TSSOP-20
pins: 1 P0.5/AIN4, 2 P0.6/TXD, 3 P0.7/RXD, 4 P2.0/RST, 5 P3.0/~{INT0}/OSCIN, 6 P1.7/~{INT1}, 7 GND, 8 P1.6/TXD1, 9 VDD, 10 P1.5, 11 SDA/P1.4, 12 SCL/P1.3, 13 P1.2, 14 AIN7/P1.1, 15 P1.0, 16 P0.0, 17 P0.1, 18 RXD1/P0.2, 19 AIN6/P0.3, 20 AIN5/P0.4

## NC7WZ07
designator U?
footprint SC70-6
pins: 1 A1, 2 GND, 3 A2, 4 Y2, 5 VCC, 6 Y1

## NEO-M8N
designator U?
footprint NEO-M8N (QFN, 26-Leads, Body 16.1x12.1mm (max), Pitch 0.00mm, Pitch1 1.10mm, IPC Medium Density)
pins: 1 NC (power), 2 D_SEL (power), 3 TIMPLUS (power), 4 EXTINT (power), 5 USB_DM (power), 7 USB_VDD (power), 8 RESET (power), 9 VCC_RF (power), 10 GND (power), 11 RF_IN (power), 12 GND (power), 13 GND (power), 14 ANT_ON (power), 15 NC (power), 16 NC (power), 17 NC (power), 18 SDA (power), 19 SCL (power), 20 TXD (power), 21 RXD (power), 22 V_BCK (power), 23 VCC (power)

## NL27WZ08
designator U?
footprint US8
pins: 1 A1, 2 B1, 3 Y2, 4 GND, 5 A2, 6 B2, 7 Y1, 8 VCC

## NUP2105L
designator D?
pins: 1 K, 2 K, 3

## OPA2333
designator OPA2333, comment U?
footprint SOIC8N_M (Footprint not found)
part A pins: 1 OUTA (out), 2 AIN- (in), 3 AIN+ (in), 4 V- (power), 8 V+ (power)
part B pins: 5 BIN+ (in), 6 BIN- (in), 7 OUTB (out)

## PIC12F1571
designator *
pins: 1, 2, 3, 4

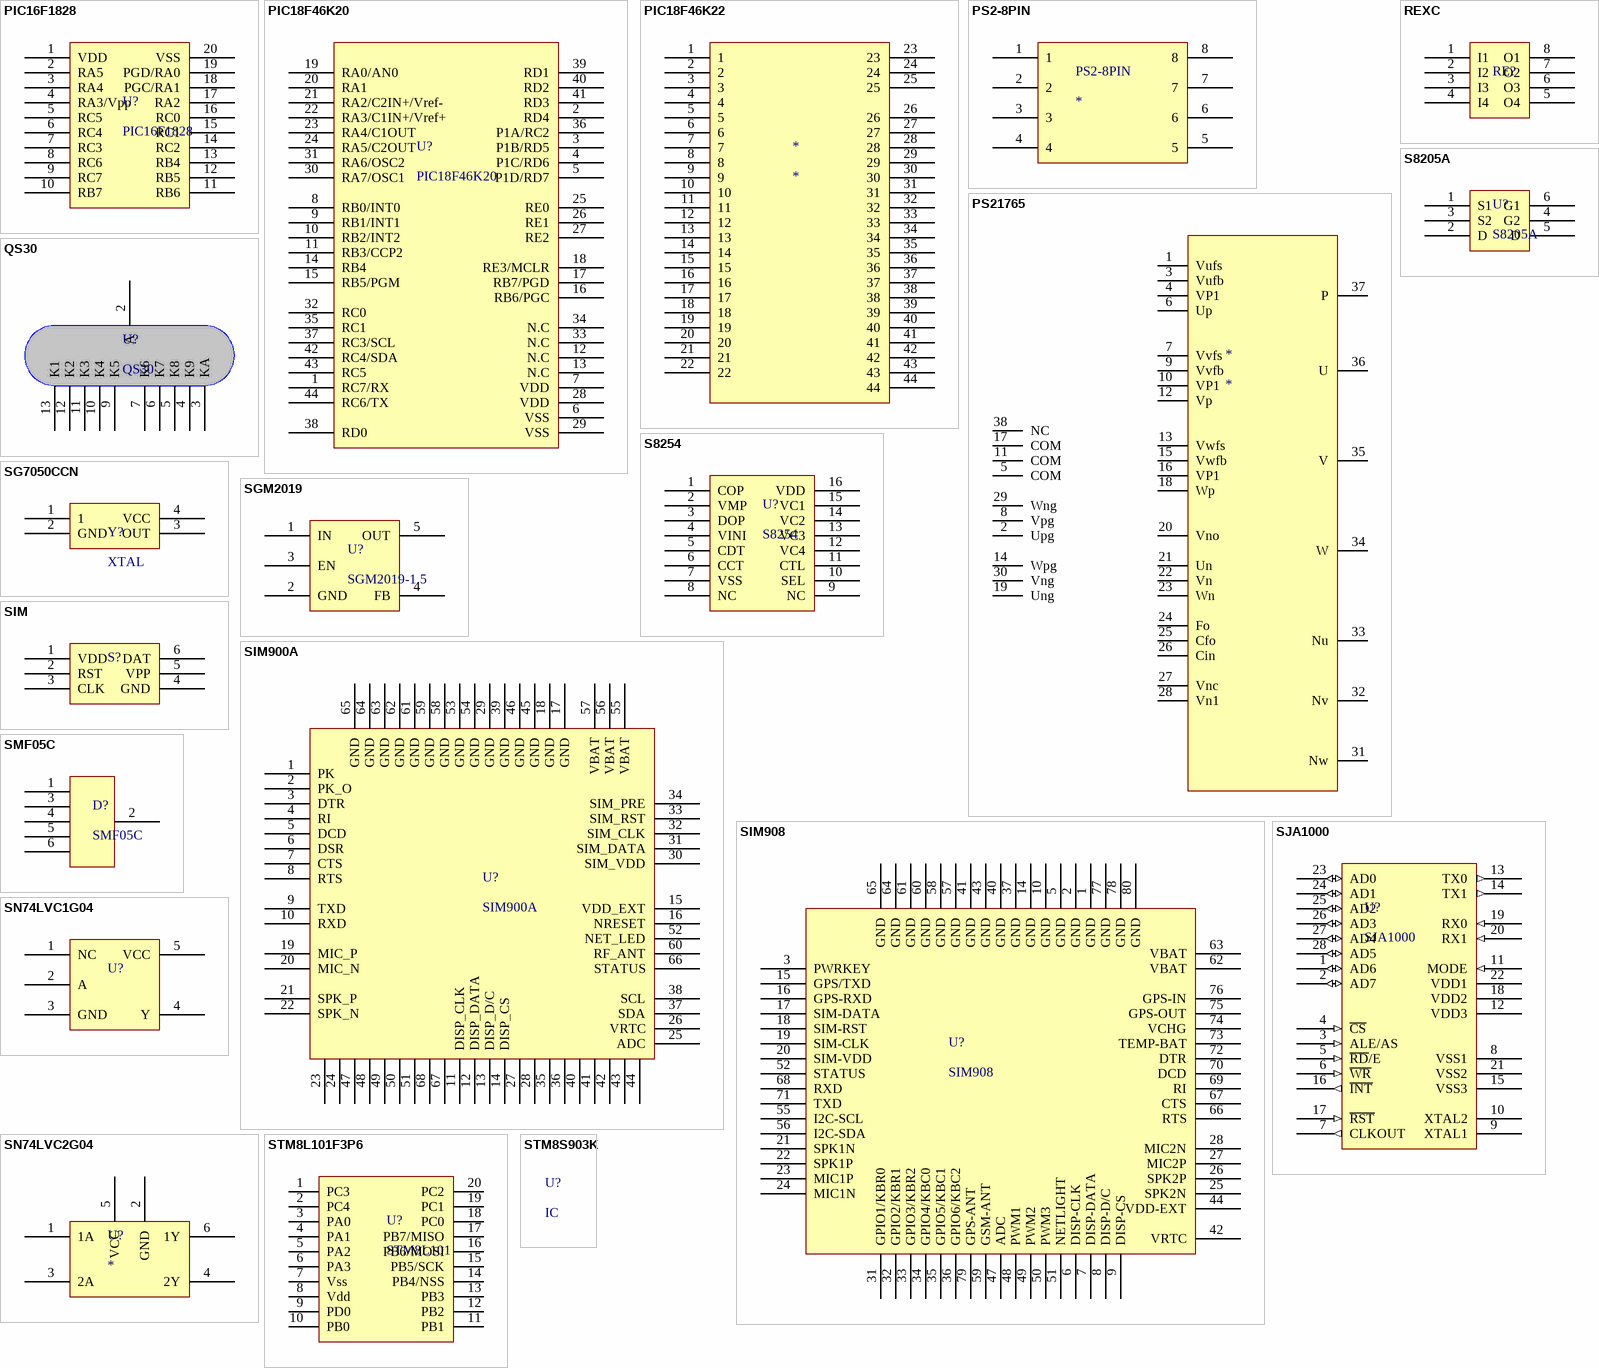
[diagram p4: symbols PIC16F1828 to STM8S903K]

## PIC16F1828
designator U?
footprint SSOP-20 (SSOP, Plastic; 20 Leads; Body Width 5.3 mm; Pitch 0.65 mm)
pins: 1 VDD, 2 RA5, 3 RA4, 4 RA3/Vpp, 5 RC5, 6 RC4, 7 RC3, 8 RC6, 9 RC7, 10 RB7, 11 RB6, 12 RB5, 13 RB4, 14 RC2, 15 RC1, 16 RC0, 17 RA2, 18 PGC/RA1, 19 PGD/RA0, 20 VSS

## PIC18F46K20
designator U?
footprint TQFP-44_M (44-Pin Thin Quad Flat Pack 0.8 mm Pitch, 1.0/0.1 mm Lead Form, IPC Low Density)
pins: 1 RC7/RX, 2 RD4, 3 P1B/RD5, 4 P1C/RD6, 5 P1D/RD7, 6 VSS, 7 VDD, 8 RB0/INT0, 9 RB1/INT1, 10 RB2/INT2, 11 RB3/CCP2, 12 N.C, 13 N.C, 14 RB4, 15 RB5/PGM, 16 RB6/PGC, 17 RB7/PGD, 18 RE3/MCLR, 19 RA0/AN0, 20 RA1, 21 RA2/C2IN+/Vref-, 22 RA3/C1IN+/Vref+, 23 RA4/C1OUT, 24 RA5/C2OUT, 25 RE0, 26 RE1, 27 RE2, 28 VDD, 29 VSS, 30 RA7/OSC1, 31 RA6/OSC2, 32 RC0, 33 N.C, 34 N.C, 35 RC1, 36 P1A/RC2, 37 RC3/SCL, 38 RD0, 39 RD1, 40 RD2, 41 RD3, 42 RC4/SDA, 43 RC5, 44 RC6/TX

## PIC18F46K22
designator *
pins: 1, 2, 3, 4, 5, 6, 7, 8, 9, 10, 11, 12, 13, 14, 15, 16, 17, 18, 19, 20, 21, 22, 23, 24, 25, 26, 27, 28, 29, 30, 31, 32, 33, 34, 35, 36, 37, 38, 39, 40, 41, 42, 43, 44

## PS2-8PIN
designator PS2-8PIN
footprint PS2-8PIN
pins: 1, 2, 3, 4, 5, 6, 7, 8

## PS21765
designator *
pins: 1 Vufs (power), 2 Upg (power), 3 Vufb (power), 4 VP1 (power), 5 COM (power), 6 Up (power), 7 Vvfs (power), 8 Vpg (power), 9 Vvfb (power), 10 VP1 (power), 11 COM (power), 12 Vp (power), 13 Vwfs (power), 14 Wpg (power), 15 Vwfb (power), 16 VP1 (power), 17 COM (power), 18 Wp (power), 19 Ung (power), 20 Vno (power), 21 Un (power), 22 Vn (power), 23 Wn (power), 24 Fo (power), 25 Cfo (power), 26 Cin (power), 27 Vnc (power), 28 Vn1 (power), 29 Wng (power), 30 Vng (power), 31 Nw (power), 32 Nv (power), 33 Nu (power), 34 W (power), 35 V (power), 36 U (power), 37 P (power), 38 NC (power)

## QS30
designator U?
footprint QS30
pins: 2 A, 3 KA, 4 K9, 5 K8, 6 K7, 7 K6, 9 K5, 10 K4, 11 K3, 12 K2, 13 K1

## REXC
designator RE?  (value not drawn)
footprint REXC
pins: 1 I1, 2 I2, 3 I3, 4 I4, 5 O4, 6 O3, 7 O2, 8 O1

## S8205A
designator U?
footprint SOT23-6
pins: 1 S1, 2 D, 3 S2, 4 G2, 5 D, 6 G1

## S8254
designator U?
footprint S8254
pins: 1 COP, 2 VMP, 3 DOP, 4 VINI, 5 CDT, 6 CCT, 7 VSS, 8 NC, 9 NC, 10 SEL, 11 CTL, 12 VC4, 13 VC3, 14 VC2, 15 VC1, 16 VDD

## SG7050CCN
designator Y?, comment XTAL
footprint XT-7050
pins: 1, 2 GND, 3 OUT, 4 VCC

## SGM2019
designator U?, comment SGM2019-1.5
footprint SOT23-5N
pins: 1 IN, 2 GND, 3 EN, 4 FB, 5 OUT

## SIM
designator S?  (value not drawn)
footprint SIM
pins: 1 VDD, 2 RST, 3 CLK, 4 GND, 5 VPP, 6 DAT

## SIM900A
designator U?
footprint QFN100P2400X2400X80-68N (QFN, 68-Leads, Body 24.0x24.0mm (max), Pitch 1.00mm, IPC Medium Density)
pins: 1 PK, 2 PK_O, 3 DTR, 4 RI, 5 DCD, 6 DSR, 7 CTS, 8 RTS, 9 TXD, 10 RXD, 11 DISP_CLK, 12 DISP_DATA, 13 DISP_D/C, 14 DISP_CS, 15 VDD_EXT, 16 NRESET, 17 GND, 18 GND, 19 MIC_P, 20 MIC_N, 21 SPK_P, 22 SPK_N, 23, 24, 25 ADC, 26 VRTC, 27, 28, 29 GND, 30 SIM_VDD, 31 SIM_DATA, 32 SIM_CLK, 33 SIM_RST, 34 SIM_PRE, 35, 36, 37 SDA, 38 SCL, 39 GND, 40, 41, 42, 43, 44, 45 GND, 46 GND, 47, 48, 49, 50, 51, 52 NET_LED, 53 GND, 54 GND, 55 VBAT, 56 VBAT, 57 VBAT, 58 GND, 59 GND, 60 RF_ANT, 61 GND, 62 GND, 63 GND, 64 GND, 65 GND, 66 STATUS, 67, 68

## SIM908
designator U?
footprint SIM908 (LCC, 80-Pins, Body 30.0x30.0mm (max), Pitch 1.00mm, IPC Medium Density)
pins: 1 GND, 2 GND, 3 PWRKEY, 4 hidden, 5 GND, 6 DISP-CLK, 7 DISP-DATA, 8 DISP-D/C, 9 DISP-CS, 10 GND, 11 hidden, 12 hidden, 13 hidden, 14 GND, 15 GPS/TXD, 16 GPS-RXD, 17 SIM-DATA, 18 SIM-RST, 19 SIM-CLK, 20 SIM-VDD, 21 SPK1N, 22 SPK1P, 23 MIC1P, 24 MIC1N, 25 SPK2N, 26 SPK2P, 27 MIC2P, 28 MIC2N, 29 hidden, 30 hidden, 31 GPIO1/KBR0, 32 GPIO2/KBR1, 33 GPIO3/KBR2, 34 GPIO4/KBC0, 35 GPIO5/KBC1, 36 GPIO6/KBC2, 37 GND, 38 hidden, 39 hidden, 40 GND, 41 GND, 42 VRTC, 43 GND, 44 VDD-EXT, 45 hidden, 46 hidden, 47 ADC, 48 PWM1, 49 PWM2, 50 PWM3, 51 NETLIGHT, 52 STATUS, 53 hidden, 54 hidden, 55 I2C-SCL, 56 I2C-SDA, 57 GND, 58 GND, 59 GSM-ANT, 60 GND, 61 GND, 62 VBAT, 63 VBAT, 64 GND, 65 GND, 66 RTS, 67 CTS, 68 RXD, 69 RI, 70 DCD, 71 TXD, 72 DTR, 73 TEMP-BAT, 74 VCHG, 75 GPS-OUT, 76 GPS-IN, 77 GND, 78 GND, 79 GPS-ANT, 80 GND

## SJA1000
designator U?
pins: 1 AD6 (io), 2 AD7 (io), 3 ALE/AS (in), 4 ~{CS} (in), 5 ~{RD}/E (in), 6 ~{WR} (in), 7 CLKOUT (out), 8 VSS1, 9 XTAL1, 10 XTAL2, 11 MODE (in), 12 VDD3, 13 TX0 (out), 14 TX1 (out), 15 VSS3, 16 ~{INT} (out), 17 ~{RST} (in), 18 VDD2, 19 RX0 (in), 20 RX1 (in), 21 VSS2, 22 VDD1, 23 AD0 (io), 24 AD1 (io), 25 AD2 (io), 26 AD3 (io), 27 AD4 (io), 28 AD5 (io)

## SMF05C
designator D?
footprint SOT363_M (Footprint not found)
pins: 1, 2, 3, 4, 5, 6

## SN74LVC1G04
designator U?  (value not drawn)
footprint SOT23-5N
pins: 1 NC, 2 A, 3 GND, 4 Y, 5 VCC

## SN74LVC2G04
designator U?
footprint SOT23-6N
pins: 1 1A, 2 GND, 3 2A, 4 2Y, 5 VCC, 6 1Y

## STM8L101F3P6
designator U?, comment STM8L101
Value: STM8L101F3P6
footprint TSSOP-20
pins: 1 PC3 (power), 2 PC4 (power), 3 PA0 (power), 4 PA1 (power), 5 PA2 (power), 6 PA3 (power), 7 Vss (power), 8 Vdd (power), 9 PD0 (power), 10 PB0 (power), 11 PB1 (power), 12 PB2 (power), 13 PB3 (power), 14 PB4/NSS (power), 15 PB5/SCK (power), 16 PB6/MOSI (power), 17 PB7/MISO (power), 18 PC0 (power), 19 PC1 (power), 20 PC2 (power)

## STM8S903K
designator U?, comment IC
Value: STM8S903K

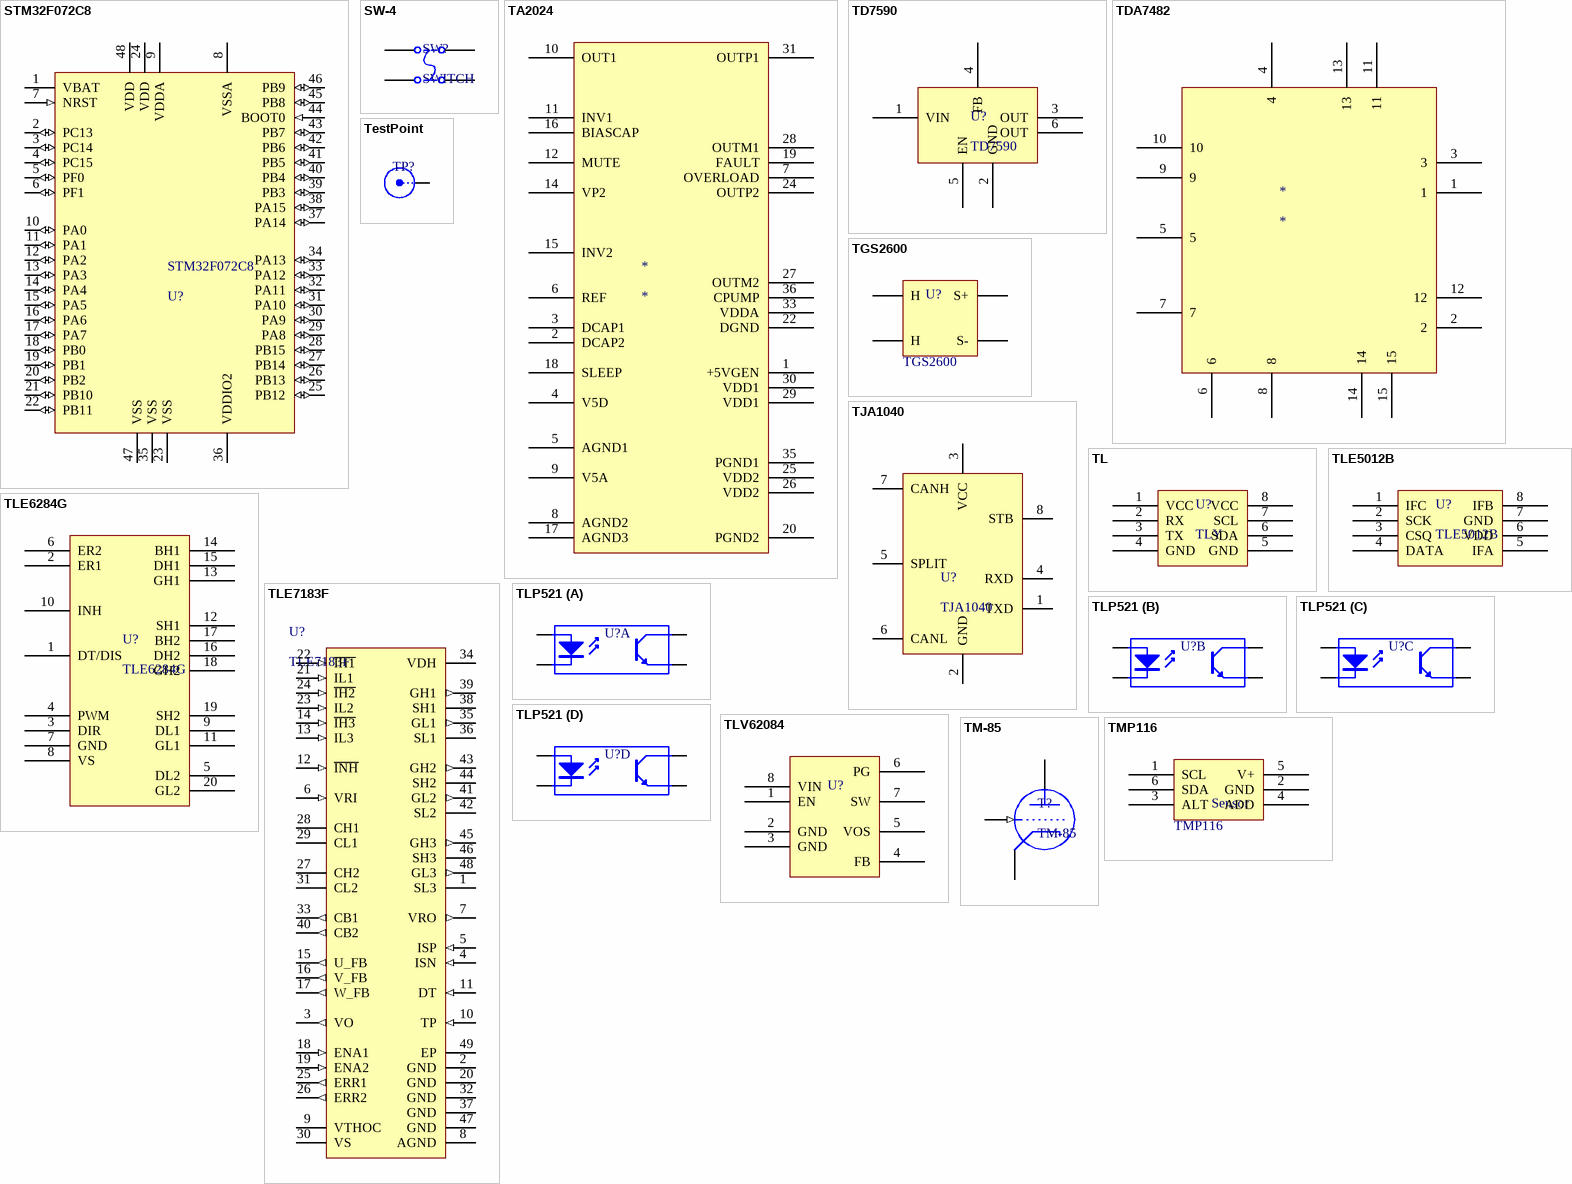
[diagram p5: symbols STM32F072C8 to TMP116]

## STM32F072C8
designator STM32F072C8, comment U?
footprint LQFP-48_L (48-Pin Thin Quad Flat Pack 0.5 mm Pitch, IPC High Density)
pins: 1 VBAT (power), 2 PC13 (io), 3 PC14 (io), 4 PC15 (io), 5 PF0 (io), 6 PF1 (io), 7 NRST (in), 8 VSSA (power), 9 VDDA (power), 10 PA0 (io), 11 PA1 (io), 12 PA2 (io), 13 PA3 (io), 14 PA4 (io), 15 PA5 (io), 16 PA6 (io), 17 PA7 (io), 18 PB0 (io), 19 PB1 (io), 20 PB2 (io), 21 PB10 (io), 22 PB11 (io), 23 VSS (power), 24 VDD (power), 25 PB12 (io), 26 PB13 (io), 27 PB14 (io), 28 PB15 (io), 29 PA8 (io), 30 PA9 (io), 31 PA10 (io), 32 PA11 (io), 33 PA12 (io), 34 PA13 (io), 35 VSS (power), 36 VDDIO2 (power), 37 PA14 (io), 38 PA15 (io), 39 PB3 (io), 40 PB4 (io), 41 PB5 (io), 42 PB6 (io), 43 PB7 (io), 44 BOOT0 (in), 45 PB8 (io), 46 PB9 (io), 47 VSS (power), 48 VDD (power)

## SW-4
designator SW?, comment SWITCH
footprint TC-060
pins: 1 COMMON1, 2 NO1, 3 COMMON2, 4 NO2

## TA2024
designator *
pins: 1 +5VGEN, 2 DCAP2, 3 DCAP1, 4 V5D, 5 AGND1, 6 REF, 7 OVERLOAD, 8 AGND2, 9 V5A, 10 OUT1, 11 INV1, 12 MUTE, 14 VP2, 15 INV2, 16 BIASCAP, 17 AGND3, 18 SLEEP, 19 FAULT, 20 PGND2, 22 DGND, 24 OUTP2, 25 VDD2, 26 VDD2, 27 OUTM2, 28 OUTM1, 29 VDD1, 30 VDD1, 31 OUTP1, 33 VDDA, 35 PGND1, 36 CPUMP

## TD7590
designator U?
pins: 1 VIN, 2 GND, 3 OUT, 4 FB, 5 EN, 6 OUT

## TDA7482
designator *
pins: 1, 2, 3, 4, 5, 6, 7, 8, 9, 10, 11, 12, 13, 14, 15

## TestPoint
designator TP?, comment TP  (value not drawn)
footprint TP_PAD
pins: 1 X

## TGS2600
designator U?, comment value TGS2600  (hidden comment: Sensor)
footprint TO-5
pins: 1 H, 2 S-, 3 S+, 4 H

## TJA1040
designator U?
Value: TJA1040
footprint SOIC8
pins: 1 TXD, 2 GND, 3 VCC, 4 RXD, 5 SPLIT, 6 CANL, 7 CANH, 8 STB

## TL
designator U?, comment TLY
footprint YP-8
pins: 1 VCC, 2 RX, 3 TX, 4 GND, 5 GND, 6 SDA, 7 SCL, 8 VCC

## TLE5012B
designator U?
footprint SOIC8
pins: 1 IFC, 2 SCK, 3 CSQ, 4 DATA, 5 IFA, 6 VDD, 7 GND, 8 IFB

## TLE6284G
designator U?
footprint SOP-20N-TLE6284G (SOP, 20-Leads, Body 12.8x7.5mm (max), Pitch 1.27mm, IPC Medium Density)
pins: 1 DT/DIS, 2 ER1, 3 DIR, 4 PWM, 5 DL2, 6 ER2, 7 GND, 8 VS, 9 DL1, 10 INH, 11 GL1, 12 SH1, 13 GH1, 14 BH1, 15 DH1, 16 DH2, 17 BH2, 18 GH2, 19 SH2, 20 GL2

## TLE7183F
designator U?
Value: TLE7183F
footprint VQFN-48M
pins: 1 SL3 (power) "Connection to source low side switch 3", 2 GND (power) "Logic and power ground", 3 VO (out) "Output of OpAmp for shunt signal amplification", 4 ISN (in) "- Input of OpAmp for shunt signal amplification", 5 ISP (in) "+ Input of OpAmp for shunt signal amplification", 6 VRI (in) "Input of bias reference amplifier", 7 VRO (out) "Output of bias reference amplifier", 8 AGND (power) "Analog ground especially for the current sense OpAmp", 9 VTHOC (power) "Threshold voltage for overcurrent detection", 10 TP (in) "test pin, connect to GND of driver IC", 11 DT (in) "Dead time program pin", 12 ~{INH} (in) "Inhibit pin (active low)", 13 IL3 (in) "Input for low side switch 3 (active high)", 14 ~{IH3} (in) "Input for high side switch 3 (active low)", 15 U_FB (out) "Digital logic representation of the voltage phase U; positive logic", 16 V_FB (out) "Digital logic representation of the voltage phase V; positive logic", 17 W_FB (out) "Digital logic representation of the voltage phase W; positive logic", 18 ENA1 (in) "Enable pin (active high)", 19 ENA2 (in) "Enable pin (active high)", 20 GND (power) "Logic and power ground", 21 IL1 (in) "Input for low side switch 1 (active high)", 22 ~{IH1} (in) "Input for high side switch 1 (active low)", 23 IL2 (in) "Input for low side switch 2 (active high)", 24 ~{IH2} (in) "Input for high side switch 2 (active low)", 25 ERR1 (out) "Error signal 1", 26 ERR2 (out) "Error signal 2", 27 CH2 "+ terminal for pump capacitor of charge pump 2", 28 CH1 "+ terminal for pump capacitor of charge pump 1", 29 CL1 "- terminal for pump capacitor of charge pump 1", 30 VS (power) "Voltage supply", 31 CL2 "- terminal for pump capacitor of charge pump 2", 32 GND (power) "Logic and power ground", 33 CB1 (out) "Buffer capacitor for charge pump 1", 34 VDH (power) "Connection to drain of high side switches for short circuit detection", 35 GL1 (out) "Output to gate low side switch 1", 36 SL1 (power) "Connection to source low side switch 1", 37 GND (power) "Logic and power ground", 38 SH1 (power) "Connection to source high side switch 1", 39 GH1 (out) "Output to gate high side switch 1", 40 CB2 (out) "Buffer capacitor for charge pump 2", 41 GL2 (out) "Output to gate low side switch 2", 42 SL2 (power) "Connection to source low side switch 2", 43 GH2 (out) "Output to gate high side switch 2", 44 SH2 (power) "Connection to source high side switch 2", 45 GH3 (out) "Output to gate high side switch 3", 46 SH3 (power) "Connection to source high side switch 3", 47 GND (power) "Logic and power ground", 48 GL3 (out) "Output to gate low side switch 3", 49 EP (power)

## TLP521
designator U?, comment TLP521-4  (value not drawn)
Value: TLP512-4
footprint TLP521-4 (SOP, 16-Leads, Body 20.3x6.0mm (max), Pitch 2.54mm, IPC Medium Density)
part A pins: 1 A "Anode", 2 K "Cathode", 15 E "Emitter", 16 C "Collector"
part B pins: 3 A "Anode", 4 K "Cathode", 13 E "Emitter", 14 C "Collector"
part C pins: 5 A "Anode", 6 K "Cathode", 11 E "Emitter", 12 C "Collector"
part D pins: 7 A "Anode", 8 K "Cathode", 9 E "Emitter", 10 C "Collector"

## TLV62084
designator U?  (value not drawn)
footprint WSON8 (DRV8837)
pins: 1 EN, 2 GND, 3 GND, 4 FB, 5 VOS, 6 PG, 7 SW, 8 VIN

## TM-85
designator T?
pins: 1 GRID (in), 2 PLATE, 3 CATHODE

## TMP116
designator U?, comment Sensor  value TMP116
footprint WSON
pins: 1 SCL, 2 GND, 3 ALT, 4 ADD, 5 V+, 6 SDA

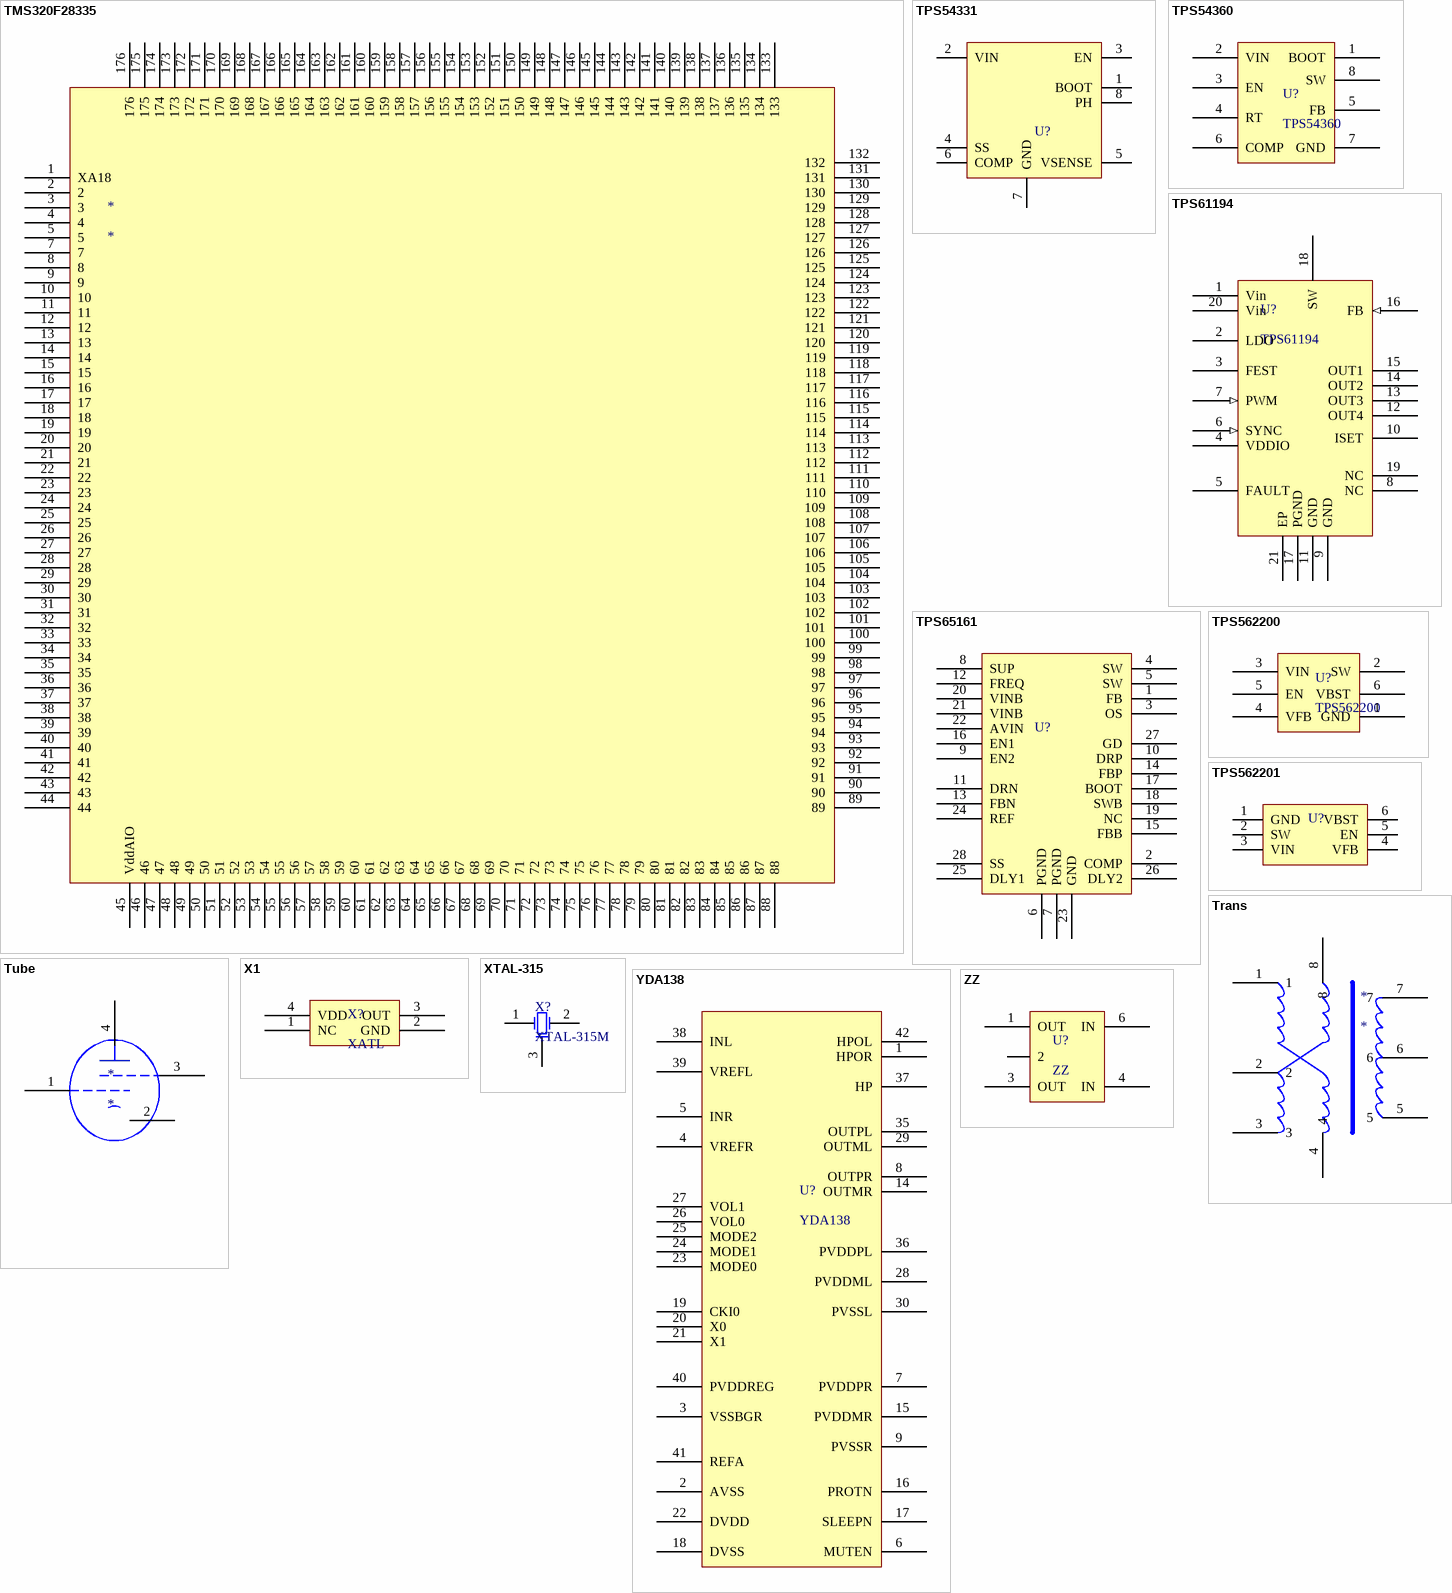
[diagram p6: symbols TMS320F28335 to ZZ]

## TMS320F28335
designator *
footprint TMS320F28335 (TSQFP, 176-Leads, Body 26.2x26.2mm (max), Pitch 0.50mm, IPC Medium Density)
pins: 1 XA18, 2, 3, 4, 5, 7, 8, 9, 10, 11, 12, 13, 14, 15, 16, 17, 18, 19, 20, 21, 22, 23, 24, 25, 26, 27, 28, 29, 30, 31, 32, 33, 34, 35, 36, 37, 38, 39, 40, 41, 42, 43, 44, 45 VddAIO, 46, 47, 48, 49, 50, 51, 52, 53, 54, 55, 56, 57, 58, 59, 60, 61, 62, 63, 64, 65, 66, 67, 68, 69, 70, 71, 72, 73, 74, 75, 76, 77, 78, 79, 80, 81, 82, 83, 84, 85, 86, 87, 88, 89, 90, 91, 92, 93, 94, 95, 96, 97, 98, 99, 100, 101, 102, 103, 104, 105, 106, 107, 108, 109, 110, 111, 112, 113, 114, 115, 116, 117, 118, 119, 120, 121, 122, 123, 124, 125, 126, 127, 128, 129, 130, 131, 132, 133, 134, 135, 136, 137, 138, 139, 140, 141, 142, 143, 144, 145, 146, 147, 148, 149, 150, 151, 152, 153, 154, 155, 156, 157, 158, 159, 160, 161, 162, 163, 164, 165, 166, 167, 168, 169, 170, 171, 172, 173, 174, 175, 176

## TPS54331
designator U?  (value not drawn)
footprint SOP8-POW
pins: 1 BOOT, 2 VIN, 3 EN, 4 SS, 5 VSENSE, 6 COMP, 7 GND, 8 PH

## TPS54360
designator U?
footprint SOP8-POW
pins: 1 BOOT, 2 VIN, 3 EN, 4 RT, 5 FB, 6 COMP, 7 GND, 8 SW, 9 (power) hidden to GND

## TPS61194
designator U?
footprint HTTSOP-20-TPS61194
pins: 1 Vin, 2 LDO, 3 FEST, 4 VDDIO, 5 FAULT, 6 SYNC (in), 7 PWM (in), 8 NC, 9 GND, 10 ISET, 11 GND, 12 OUT4, 13 OUT3, 14 OUT2, 15 OUT1, 16 FB (in), 17 PGND, 18 SW, 19 NC, 20 Vin, 21 EP

## TPS65161
designator U?  (value not drawn)
footprint TSSOP-28
pins: 1 FB, 2 COMP, 3 OS, 4 SW, 5 SW, 6 PGND, 7 PGND, 8 SUP, 9 EN2, 10 DRP, 11 DRN, 12 FREQ, 13 FBN, 14 FBP, 15 FBB, 16 EN1, 17 BOOT, 18 SWB, 19 NC, 20 VINB, 21 VINB, 22 AVIN, 23 GND, 24 REF, 25 DLY1, 26 DLY2, 27 GD, 28 SS

## TPS562200
designator U?
footprint SOT23-6
pins: 1 GND, 2 SW, 3 VIN, 4 VFB, 5 EN, 6 VBST

## TPS562201
designator U?  (value not drawn)
footprint SOT23-6-DC (SOT23, 6-Leads, Body 3.0x3.7mm (max), Pitch 0.95mm, IPC Medium Density)
pins: 1 GND, 2 SW, 3 VIN, 4 VFB, 5 EN, 6 VBST

## Trans
designator *
pins: 1, 2, 3, 4, 5, 6, 7, 8

## Tube
designator *
pins: 1, 2, 3, 4

## X1
designator X?, comment XATL
pins: 1 NC, 2 GND, 3 OUT, 4 VDD

## XTAL-315
designator X?, comment XTAL-315M
footprint TO-39
pins: 1 OSC1, 2 OSC2, 3

## YDA138
designator U?
footprint YDA138
pins: 1 HPOR, 2 AVSS, 3 VSSBGR, 4 VREFR, 5 INR, 6 MUTEN, 7 PVDDPR, 8 OUTPR, 9 PVSSR, 10 PVSSR hidden to AGND, 11 PVSSR hidden to AGND, 12 PVSSR hidden to AGND, 13 PVSSR hidden to AGND, 14 OUTMR, 15 PVDDMR, 16 PROTN, 17 SLEEPN, 18 DVSS, 19 CKI0, 20 X0, 21 X1, 22 DVDD, 23 MODE0, 24 MODE1, 25 MODE2, 26 VOL0, 27 VOL1, 28 PVDDML, 29 OUTML, 30 PVSSL, 31 PVSSL hidden to AGND, 32 PVSSL hidden to AGND, 33 PVSSL hidden to AGND, 34 PVSSL hidden to AGND, 35 OUTPL, 36 PVDDPL, 37 HP, 38 INL, 39 VREFL, 40 PVDDREG, 41 REFA, 42 HPOL

## ZZ
designator U?
footprint ZZ
pins: 1 OUT, 2, 3 OUT, 4 IN, 6 IN